# Altium schematic symbol library MCU_NXP_Kinetis.SchLib: 155 symbols (part 4 of 5)
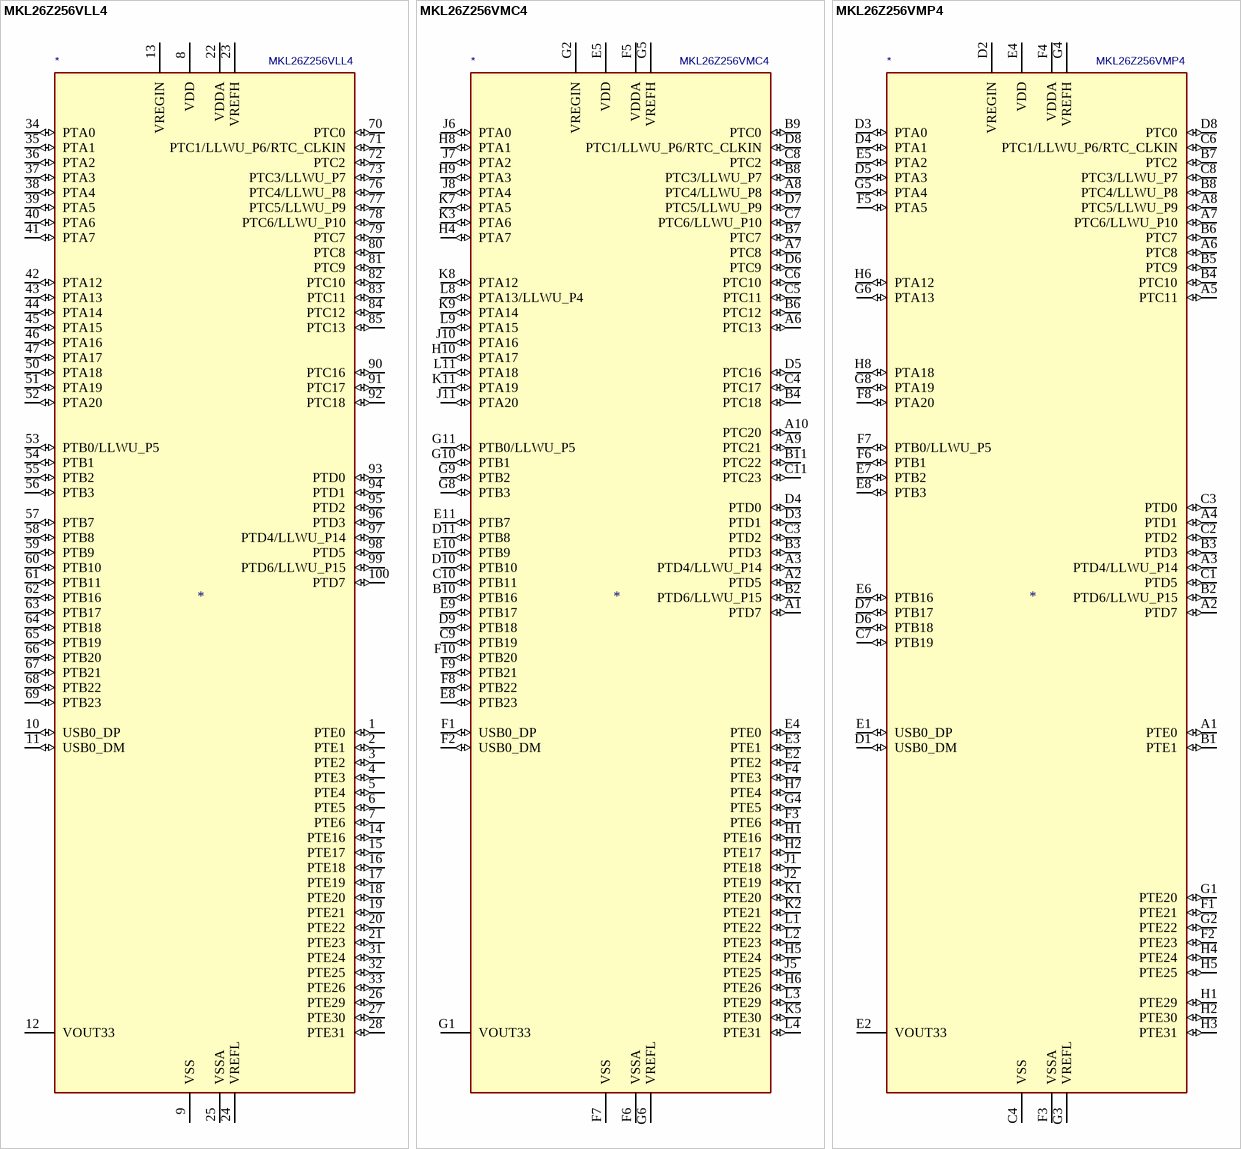
[diagram p33: symbols MKL26Z256VLL4 to MKL26Z256VMP4]

## MKL26Z256VLL4
designator *  value MKL26Z256VLL4
ki_keywords: Kinetis KL26 ARM Cortex M0+; ki_description: Kinetis KL26 series, 48-MHz/32-bit ARM Cortex-M0+, 256 kB flash, 32 kB SRAM, USB FS Device/OTG, LQFP-100; ki_fp_filters: LQFP*14x14mm*P0.5mm*; Footprint: Package_QFP:LQFP-100_14x14mm_P0.5mm; Supplier: http://www.nxp.com/docs/en/data-sheet/KL26P121M48SF4.pdf
footprint LQFP-100_14x14mm_P0.5mm
pins: 1 PTE0 (io), 2 PTE1 (io), 3 PTE2 (io), 4 PTE3 (io), 5 PTE4 (io), 6 PTE5 (io), 7 PTE6 (io), 8 VDD (power), 9 VSS (power), 10 USB0_DP (io), 11 USB0_DM (io), 12 VOUT33 (power), 13 VREGIN (power), 14 PTE16 (io), 15 PTE17 (io), 16 PTE18 (io), 17 PTE19 (io), 18 PTE20 (io), 19 PTE21 (io), 20 PTE22 (io), 21 PTE23 (io), 22 VDDA (power), 23 VREFH (power), 24 VREFL (power), 25 VSSA (power), 26 PTE29 (io), 27 PTE30 (io), 28 PTE31 (io), 29 VSS hidden, 30 VDD hidden, 31 PTE24 (io), 32 PTE25 (io), 33 PTE26 (io), 34 PTA0 (io), 35 PTA1 (io), 36 PTA2 (io), 37 PTA3 (io), 38 PTA4 (io), 39 PTA5 (io), 40 PTA6 (io), 41 PTA7 (io), 42 PTA12 (io), 43 PTA13 (io), 44 PTA14 (io), 45 PTA15 (io), 46 PTA16 (io), 47 PTA17 (io), 48 VDD hidden, 49 VSS hidden, 50 PTA18 (io), 51 PTA19 (io), 52 PTA20 (io), 53 PTB0/LLWU_P5 (io), 54 PTB1 (io), 55 PTB2 (io), 56 PTB3 (io), 57 PTB7 (io), 58 PTB8 (io), 59 PTB9 (io), 60 PTB10 (io), 61 PTB11 (io), 62 PTB16 (io), 63 PTB17 (io), 64 PTB18 (io), 65 PTB19 (io), 66 PTB20 (io), 67 PTB21 (io), 68 PTB22 (io), 69 PTB23 (io), 70 PTC0 (io), 71 PTC1/LLWU_P6/RTC_CLKIN (io), 72 PTC2 (io), 73 PTC3/LLWU_P7 (io), 74 VSS hidden, 75 VDD hidden, 76 PTC4/LLWU_P8 (io), 77 PTC5/LLWU_P9 (io), 78 PTC6/LLWU_P10 (io), 79 PTC7 (io), 80 PTC8 (io), 81 PTC9 (io), 82 PTC10 (io), 83 PTC11 (io), 84 PTC12 (io), 85 PTC13 (io), 86 NC (in) hidden, 87 NC (in) hidden, 88 NC (in) hidden, 89 NC (in) hidden, 90 PTC16 (io), 91 PTC17 (io), 92 PTC18 (io), 93 PTD0 (io), 94 PTD1 (io), 95 PTD2 (io), 96 PTD3 (io), 97 PTD4/LLWU_P14 (io), 98 PTD5 (io), 99 PTD6/LLWU_P15 (io), 100 PTD7 (io)

## MKL26Z256VMC4
designator *  value MKL26Z256VMC4
ki_keywords: Kinetis KL26 ARM Cortex M0+; ki_description: Kinetis KL26 series, 48-MHz/32-bit ARM Cortex-M0+, 256 kB flash, 32 kB SRAM, USB FS Device/OTG, XFBGA-121; ki_fp_filters: XFBGA*8x8mm*P0.65mm*; Footprint: Package_BGA:XFBGA-121_8x8mm_Layout11x11_P0.65mm; Supplier: http://www.nxp.com/docs/en/data-sheet/KL26P121M48SF4.pdf
footprint XFBGA-121_8x8mm_Layout11x11_P0.65mm
pins: A1 PTD7 (io), A2 PTD5 (io), A3 PTD4/LLWU_P14 (io), A4 NC (in) hidden, A5 NC (in) hidden, A6 PTC13 (io), A7 PTC8 (io), A8 PTC4/LLWU_P8 (io), A9 PTC21 (io), A10 PTC20 (io), A11 NC (in) hidden, B1 NC (in) hidden, B2 PTD6/LLWU_P15 (io), B3 PTD3 (io), B4 PTC18 (io), B5 NC (in) hidden, B6 PTC12 (io), B7 PTC7 (io), B8 PTC3/LLWU_P7 (io), B9 PTC0 (io), B10 PTB16 (io), B11 PTC22 (io), C1 NC (in) hidden, C2 NC (in) hidden, C3 PTD2 (io), C4 PTC17 (io), C5 PTC11 (io), C6 PTC10 (io), C7 PTC6/LLWU_P10 (io), C8 PTC2 (io), C9 PTB19 (io), C10 PTB11 (io), C11 PTC23 (io), D1 NC (in) hidden, D2 NC (in) hidden, D3 PTD1 (io), D4 PTD0 (io), D5 PTC16 (io), D6 PTC9 (io), D7 PTC5/LLWU_P9 (io), D8 PTC1/LLWU_P6/RTC_CLKIN (io), D9 PTB18 (io), D10 PTB10 (io), D11 PTB8 (io), E1 NC (in) hidden, E2 PTE2 (io), E3 PTE1 (io), E4 PTE0 (io), E5 VDD (power), E6 VDD hidden, E7 VDD hidden, E8 PTB23 (io), E9 PTB17 (io), E10 PTB9 (io), E11 PTB7 (io), F1 USB0_DP (io), F2 USB0_DM (io), F3 PTE6 (io), F4 PTE3 (io), F5 VDDA (power), F6 VSSA (power), F7 VSS (power), F8 PTB22 (io), F9 PTB21 (io), F10 PTB20 (io), F11 NC (in) hidden, G1 VOUT33 (power), G2 VREGIN (power), G3 VSS hidden, G4 PTE5 (io), G5 VREFH (power), G6 VREFL (power), G7 VSS hidden, G8 PTB3 (io), G9 PTB2 (io), G10 PTB1 (io), G11 PTB0/LLWU_P5 (io), H1 PTE16 (io), H2 PTE17 (io), H3 NC (in) hidden, H4 PTA7 (io), H5 PTE24 (io), H6 PTE26 (io), H7 PTE4 (io), H8 PTA1 (io), H9 PTA3 (io), H10 PTA17 (io), H11 NC (in) hidden, J1 PTE18 (io), J2 PTE19 (io), J3 NC (in) hidden, J4 NC (in) hidden, J5 PTE25 (io), J6 PTA0 (io), J7 PTA2 (io), J8 PTA4 (io), J9 NC (in) hidden, J10 PTA16 (io), J11 PTA20 (io), K1 PTE20 (io), K2 PTE21 (io), K3 PTA6 (io), K4 NC (in) hidden, K5 PTE30 (io), K6 VDD hidden, K7 PTA5 (io), K8 PTA12 (io), K9 PTA14 (io), K10 VSS hidden, K11 PTA19 (io), L1 PTE22 (io), L2 PTE23 (io), L3 PTE29 (io), L4 PTE31 (io), L5 VSS hidden, L6 VSS hidden, L7 NC (in) hidden, L8 PTA13/LLWU_P4 (io), L9 PTA15 (io), L10 VDD hidden, L11 PTA18 (io)

## MKL26Z256VMP4
designator *  value MKL26Z256VMP4
ki_keywords: Kinetis KL26 ARM Cortex M0+; ki_description: Kinetis KL26 series, 48-MHz/32-bit ARM Cortex-M0+, 256 kB flash, 32 kB SRAM, USB FS Device/OTG, XFBGA-64; ki_fp_filters: XFBGA*5.0x5.0mm*P0.5mm*; Footprint: Package_BGA:XFBGA-64_5.0x5.0mm_Layout8x8_P0.5mm; Supplier: http://www.nxp.com/docs/en/data-sheet/KL26P121M48SF4.pdf
footprint XFBGA-64_5.0x5.0mm_Layout8x8_P0.5mm
pins: A1 PTE0 (io), A2 PTD7 (io), A3 PTD4/LLWU_P14 (io), A4 PTD1 (io), A5 PTC11 (io), A6 PTC8 (io), A7 PTC6/LLWU_P10 (io), A8 PTC5/LLWU_P9 (io), B1 PTE1 (io), B2 PTD6/LLWU_P15 (io), B3 PTD3 (io), B4 PTC10 (io), B5 PTC9 (io), B6 PTC7 (io), B7 PTC2 (io), B8 PTC4/LLWU_P8 (io), C1 PTD5 (io), C2 PTD2 (io), C3 PTD0 (io), C4 VSS (power), C5 NC (in) hidden, C6 PTC1/LLWU_P6/RTC_CLKIN (io), C7 PTB19 (io), C8 PTC3/LLWU_P7 (io), D1 USB0_DM (io), D2 VREGIN (power), D3 PTA0 (io), D4 PTA1 (io), D5 PTA3 (io), D6 PTB18 (io), D7 PTB17 (io), D8 PTC0 (io), E1 USB0_DP (io), E2 VOUT33 (power), E3 VSS hidden, E4 VDD (power), E5 PTA2 (io), E6 PTB16 (io), E7 PTB2 (io), E8 PTB3 (io), F1 PTE21 (io), F2 PTE23 (io), F3 VSSA (power), F4 VDDA (power), F5 PTA5 (io), F6 PTB1 (io), F7 PTB0/LLWU_P5 (io), F8 PTA20 (io), G1 PTE20 (io), G2 PTE22 (io), G3 VREFL (power), G4 VREFH (power), G5 PTA4 (io), G6 PTA13 (io), G7 VDD hidden, G8 PTA19 (io), H1 PTE29 (io), H2 PTE30 (io), H3 PTE31 (io), H4 PTE24 (io), H5 PTE25 (io), H6 PTA12 (io), H7 VSS hidden, H8 PTA18 (io)

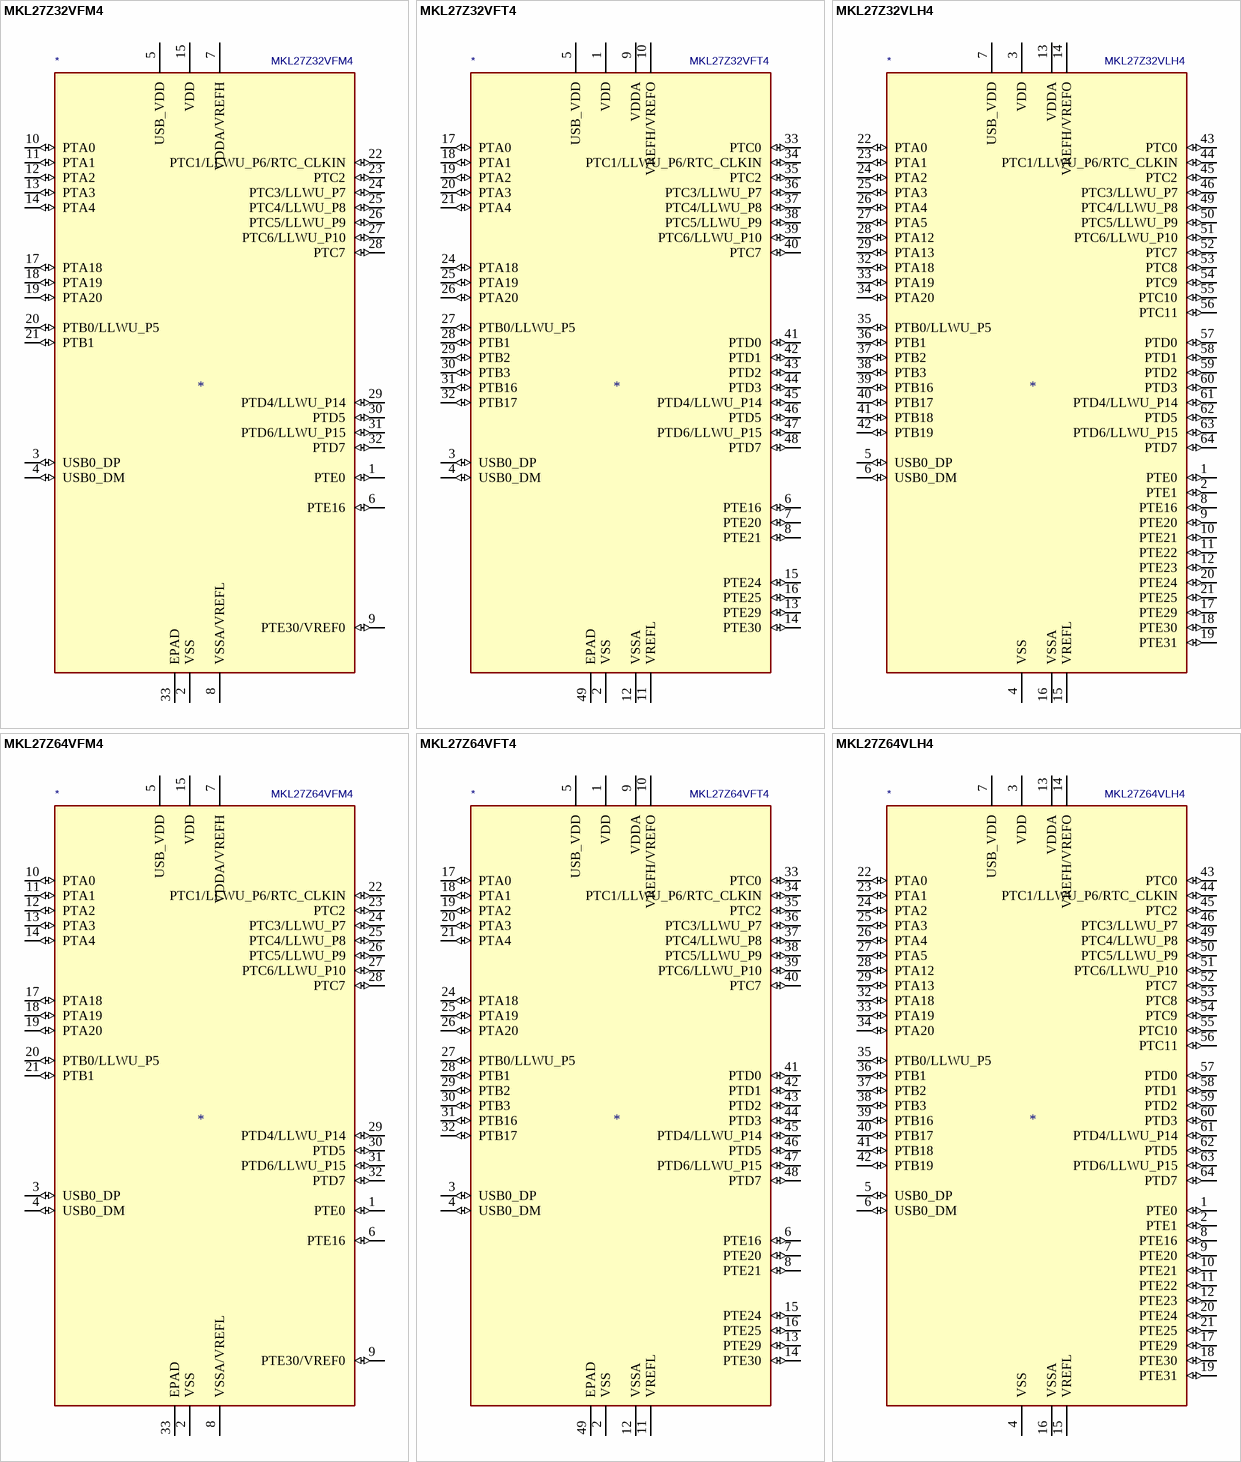
[diagram p24: symbols MKL27Z32VFM4 to MKL27Z64VLH4]

## MKL27Z32VFM4
designator *  value MKL27Z32VFM4
ki_keywords: Kinetis KL27 ARM Cortex M0+; ki_description: Kinetis KL27 series, 48-MHz/32-bit ARM Cortex-M0+, 32 kB flash, 8 kB SRAM, USB FS Device (xtal-less)/OTG, QFN-32; ki_fp_filters: QFN*5x5mm*P0.5mm*; Footprint: Package_DFN_QFN:QFN-32-1EP_5x5mm_P0.5mm_EP3.45x3.45mm; Supplier: http://www.nxp.com/docs/en/data-sheet/KL27P64M48SF2.pdf
footprint QFN-32-1EP_5x5mm_P0.5mm_EP3.45x3.45mm
pins: 1 PTE0 (io), 2 VSS (power), 3 USB0_DP (io), 4 USB0_DM (io), 5 USB_VDD (power), 6 PTE16 (io), 7 VDDA/VREFH (power), 8 VSSA/VREFL (power), 9 PTE30/VREF0 (io), 10 PTA0 (io), 11 PTA1 (io), 12 PTA2 (io), 13 PTA3 (io), 14 PTA4 (io), 15 VDD (power), 16 VSS hidden, 17 PTA18 (io), 18 PTA19 (io), 19 PTA20 (io), 20 PTB0/LLWU_P5 (io), 21 PTB1 (io), 22 PTC1/LLWU_P6/RTC_CLKIN (io), 23 PTC2 (io), 24 PTC3/LLWU_P7 (io), 25 PTC4/LLWU_P8 (io), 26 PTC5/LLWU_P9 (io), 27 PTC6/LLWU_P10 (io), 28 PTC7 (io), 29 PTD4/LLWU_P14 (io), 30 PTD5 (io), 31 PTD6/LLWU_P15 (io), 32 PTD7 (io), 33 EPAD (power)

## MKL27Z32VFT4
designator *  value MKL27Z32VFT4
ki_keywords: Kinetis KL27 ARM Cortex M0+; ki_description: Kinetis KL27 series, 48-MHz/32-bit ARM Cortex-M0+, 32 kB flash, 8 kB SRAM, USB FS Device (xtal-less)/OTG, QFN-48; ki_fp_filters: QFN*7x7mm*P0.5mm*; Footprint: Package_DFN_QFN:QFN-48-1EP_7x7mm_P0.5mm_EP5.15x5.15mm; Supplier: http://www.nxp.com/docs/en/data-sheet/KL27P64M48SF2.pdf
footprint QFN-48-1EP_7x7mm_P0.5mm_EP5.15x5.15mm
pins: 1 VDD (power), 2 VSS (power), 3 USB0_DP (io), 4 USB0_DM (io), 5 USB_VDD (power), 6 PTE16 (io), 7 PTE20 (io), 8 PTE21 (io), 9 VDDA (power), 10 VREFH/VREFO (power), 11 VREFL (power), 12 VSSA (power), 13 PTE29 (io), 14 PTE30 (io), 15 PTE24 (io), 16 PTE25 (io), 17 PTA0 (io), 18 PTA1 (io), 19 PTA2 (io), 20 PTA3 (io), 21 PTA4 (io), 22 VDD hidden, 23 VSS hidden, 24 PTA18 (io), 25 PTA19 (io), 26 PTA20 (io), 27 PTB0/LLWU_P5 (io), 28 PTB1 (io), 29 PTB2 (io), 30 PTB3 (io), 31 PTB16 (io), 32 PTB17 (io), 33 PTC0 (io), 34 PTC1/LLWU_P6/RTC_CLKIN (io), 35 PTC2 (io), 36 PTC3/LLWU_P7 (io), 37 PTC4/LLWU_P8 (io), 38 PTC5/LLWU_P9 (io), 39 PTC6/LLWU_P10 (io), 40 PTC7 (io), 41 PTD0 (io), 42 PTD1 (io), 43 PTD2 (io), 44 PTD3 (io), 45 PTD4/LLWU_P14 (io), 46 PTD5 (io), 47 PTD6/LLWU_P15 (io), 48 PTD7 (io), 49 EPAD (power)

## MKL27Z32VLH4
designator *  value MKL27Z32VLH4
ki_keywords: Kinetis KL27 ARM Cortex M0+; ki_description: Kinetis KL27 series, 48-MHz/32-bit ARM Cortex-M0+, 32 kB flash, 8 kB SRAM, USB FS Device (xtal-less)/OTG, LQFP-64; ki_fp_filters: LQFP*10x10mm*P0.5mm*; Footprint: Package_QFP:LQFP-64_10x10mm_P0.5mm; Supplier: http://www.nxp.com/docs/en/data-sheet/KL27P64M48SF2.pdf
footprint LQFP-64_10x10mm_P0.5mm
pins: 1 PTE0 (io), 2 PTE1 (io), 3 VDD (power), 4 VSS (power), 5 USB0_DP (io), 6 USB0_DM (io), 7 USB_VDD (power), 8 PTE16 (io), 9 PTE20 (io), 10 PTE21 (io), 11 PTE22 (io), 12 PTE23 (io), 13 VDDA (power), 14 VREFH/VREFO (power), 15 VREFL (power), 16 VSSA (power), 17 PTE29 (io), 18 PTE30 (io), 19 PTE31 (io), 20 PTE24 (io), 21 PTE25 (io), 22 PTA0 (io), 23 PTA1 (io), 24 PTA2 (io), 25 PTA3 (io), 26 PTA4 (io), 27 PTA5 (io), 28 PTA12 (io), 29 PTA13 (io), 30 VDD hidden, 31 VSS hidden, 32 PTA18 (io), 33 PTA19 (io), 34 PTA20 (io), 35 PTB0/LLWU_P5 (io), 36 PTB1 (io), 37 PTB2 (io), 38 PTB3 (io), 39 PTB16 (io), 40 PTB17 (io), 41 PTB18 (io), 42 PTB19 (io), 43 PTC0 (io), 44 PTC1/LLWU_P6/RTC_CLKIN (io), 45 PTC2 (io), 46 PTC3/LLWU_P7 (io), 47 VSS hidden, 48 VDD hidden, 49 PTC4/LLWU_P8 (io), 50 PTC5/LLWU_P9 (io), 51 PTC6/LLWU_P10 (io), 52 PTC7 (io), 53 PTC8 (io), 54 PTC9 (io), 55 PTC10 (io), 56 PTC11 (io), 57 PTD0 (io), 58 PTD1 (io), 59 PTD2 (io), 60 PTD3 (io), 61 PTD4/LLWU_P14 (io), 62 PTD5 (io), 63 PTD6/LLWU_P15 (io), 64 PTD7 (io)

## MKL27Z64VFM4
designator *  value MKL27Z64VFM4
ki_keywords: Kinetis KL27 ARM Cortex M0+; ki_description: Kinetis KL27 series, 48-MHz/32-bit ARM Cortex-M0+, 64 kB flash, 16 kB SRAM, USB FS Device (xtal-less)/OTG, QFN-32; ki_fp_filters: QFN*5x5mm*P0.5mm*; Footprint: Package_DFN_QFN:QFN-32-1EP_5x5mm_P0.5mm_EP3.45x3.45mm; Supplier: http://www.nxp.com/docs/en/data-sheet/KL27P64M48SF2.pdf
footprint QFN-32-1EP_5x5mm_P0.5mm_EP3.45x3.45mm
pins: 1 PTE0 (io), 2 VSS (power), 3 USB0_DP (io), 4 USB0_DM (io), 5 USB_VDD (power), 6 PTE16 (io), 7 VDDA/VREFH (power), 8 VSSA/VREFL (power), 9 PTE30/VREF0 (io), 10 PTA0 (io), 11 PTA1 (io), 12 PTA2 (io), 13 PTA3 (io), 14 PTA4 (io), 15 VDD (power), 16 VSS hidden, 17 PTA18 (io), 18 PTA19 (io), 19 PTA20 (io), 20 PTB0/LLWU_P5 (io), 21 PTB1 (io), 22 PTC1/LLWU_P6/RTC_CLKIN (io), 23 PTC2 (io), 24 PTC3/LLWU_P7 (io), 25 PTC4/LLWU_P8 (io), 26 PTC5/LLWU_P9 (io), 27 PTC6/LLWU_P10 (io), 28 PTC7 (io), 29 PTD4/LLWU_P14 (io), 30 PTD5 (io), 31 PTD6/LLWU_P15 (io), 32 PTD7 (io), 33 EPAD (power)

## MKL27Z64VFT4
designator *  value MKL27Z64VFT4
ki_keywords: Kinetis KL27 ARM Cortex M0+; ki_description: Kinetis KL27 series, 48-MHz/32-bit ARM Cortex-M0+, 64 kB flash, 16 kB SRAM, USB FS Device (xtal-less)/OTG, QFN-48; ki_fp_filters: QFN*7x7mm*P0.5mm*; Footprint: Package_DFN_QFN:QFN-48-1EP_7x7mm_P0.5mm_EP5.15x5.15mm; Supplier: http://www.nxp.com/docs/en/data-sheet/KL27P64M48SF2.pdf
footprint QFN-48-1EP_7x7mm_P0.5mm_EP5.15x5.15mm
pins: 1 VDD (power), 2 VSS (power), 3 USB0_DP (io), 4 USB0_DM (io), 5 USB_VDD (power), 6 PTE16 (io), 7 PTE20 (io), 8 PTE21 (io), 9 VDDA (power), 10 VREFH/VREFO (power), 11 VREFL (power), 12 VSSA (power), 13 PTE29 (io), 14 PTE30 (io), 15 PTE24 (io), 16 PTE25 (io), 17 PTA0 (io), 18 PTA1 (io), 19 PTA2 (io), 20 PTA3 (io), 21 PTA4 (io), 22 VDD hidden, 23 VSS hidden, 24 PTA18 (io), 25 PTA19 (io), 26 PTA20 (io), 27 PTB0/LLWU_P5 (io), 28 PTB1 (io), 29 PTB2 (io), 30 PTB3 (io), 31 PTB16 (io), 32 PTB17 (io), 33 PTC0 (io), 34 PTC1/LLWU_P6/RTC_CLKIN (io), 35 PTC2 (io), 36 PTC3/LLWU_P7 (io), 37 PTC4/LLWU_P8 (io), 38 PTC5/LLWU_P9 (io), 39 PTC6/LLWU_P10 (io), 40 PTC7 (io), 41 PTD0 (io), 42 PTD1 (io), 43 PTD2 (io), 44 PTD3 (io), 45 PTD4/LLWU_P14 (io), 46 PTD5 (io), 47 PTD6/LLWU_P15 (io), 48 PTD7 (io), 49 EPAD (power)

## MKL27Z64VLH4
designator *  value MKL27Z64VLH4
ki_keywords: Kinetis KL27 ARM Cortex M0+; ki_description: Kinetis KL27 series, 48-MHz/32-bit ARM Cortex-M0+, 64 kB flash, 16 kB SRAM, USB FS Device (xtal-less)/OTG, LQFP-64; ki_fp_filters: LQFP*10x10mm*P0.5mm*; Footprint: Package_QFP:LQFP-64_10x10mm_P0.5mm; Supplier: http://www.nxp.com/docs/en/data-sheet/KL27P64M48SF2.pdf
footprint LQFP-64_10x10mm_P0.5mm
pins: 1 PTE0 (io), 2 PTE1 (io), 3 VDD (power), 4 VSS (power), 5 USB0_DP (io), 6 USB0_DM (io), 7 USB_VDD (power), 8 PTE16 (io), 9 PTE20 (io), 10 PTE21 (io), 11 PTE22 (io), 12 PTE23 (io), 13 VDDA (power), 14 VREFH/VREFO (power), 15 VREFL (power), 16 VSSA (power), 17 PTE29 (io), 18 PTE30 (io), 19 PTE31 (io), 20 PTE24 (io), 21 PTE25 (io), 22 PTA0 (io), 23 PTA1 (io), 24 PTA2 (io), 25 PTA3 (io), 26 PTA4 (io), 27 PTA5 (io), 28 PTA12 (io), 29 PTA13 (io), 30 VDD hidden, 31 VSS hidden, 32 PTA18 (io), 33 PTA19 (io), 34 PTA20 (io), 35 PTB0/LLWU_P5 (io), 36 PTB1 (io), 37 PTB2 (io), 38 PTB3 (io), 39 PTB16 (io), 40 PTB17 (io), 41 PTB18 (io), 42 PTB19 (io), 43 PTC0 (io), 44 PTC1/LLWU_P6/RTC_CLKIN (io), 45 PTC2 (io), 46 PTC3/LLWU_P7 (io), 47 VSS hidden, 48 VDD hidden, 49 PTC4/LLWU_P8 (io), 50 PTC5/LLWU_P9 (io), 51 PTC6/LLWU_P10 (io), 52 PTC7 (io), 53 PTC8 (io), 54 PTC9 (io), 55 PTC10 (io), 56 PTC11 (io), 57 PTD0 (io), 58 PTD1 (io), 59 PTD2 (io), 60 PTD3 (io), 61 PTD4/LLWU_P14 (io), 62 PTD5 (io), 63 PTD6/LLWU_P15 (io), 64 PTD7 (io)

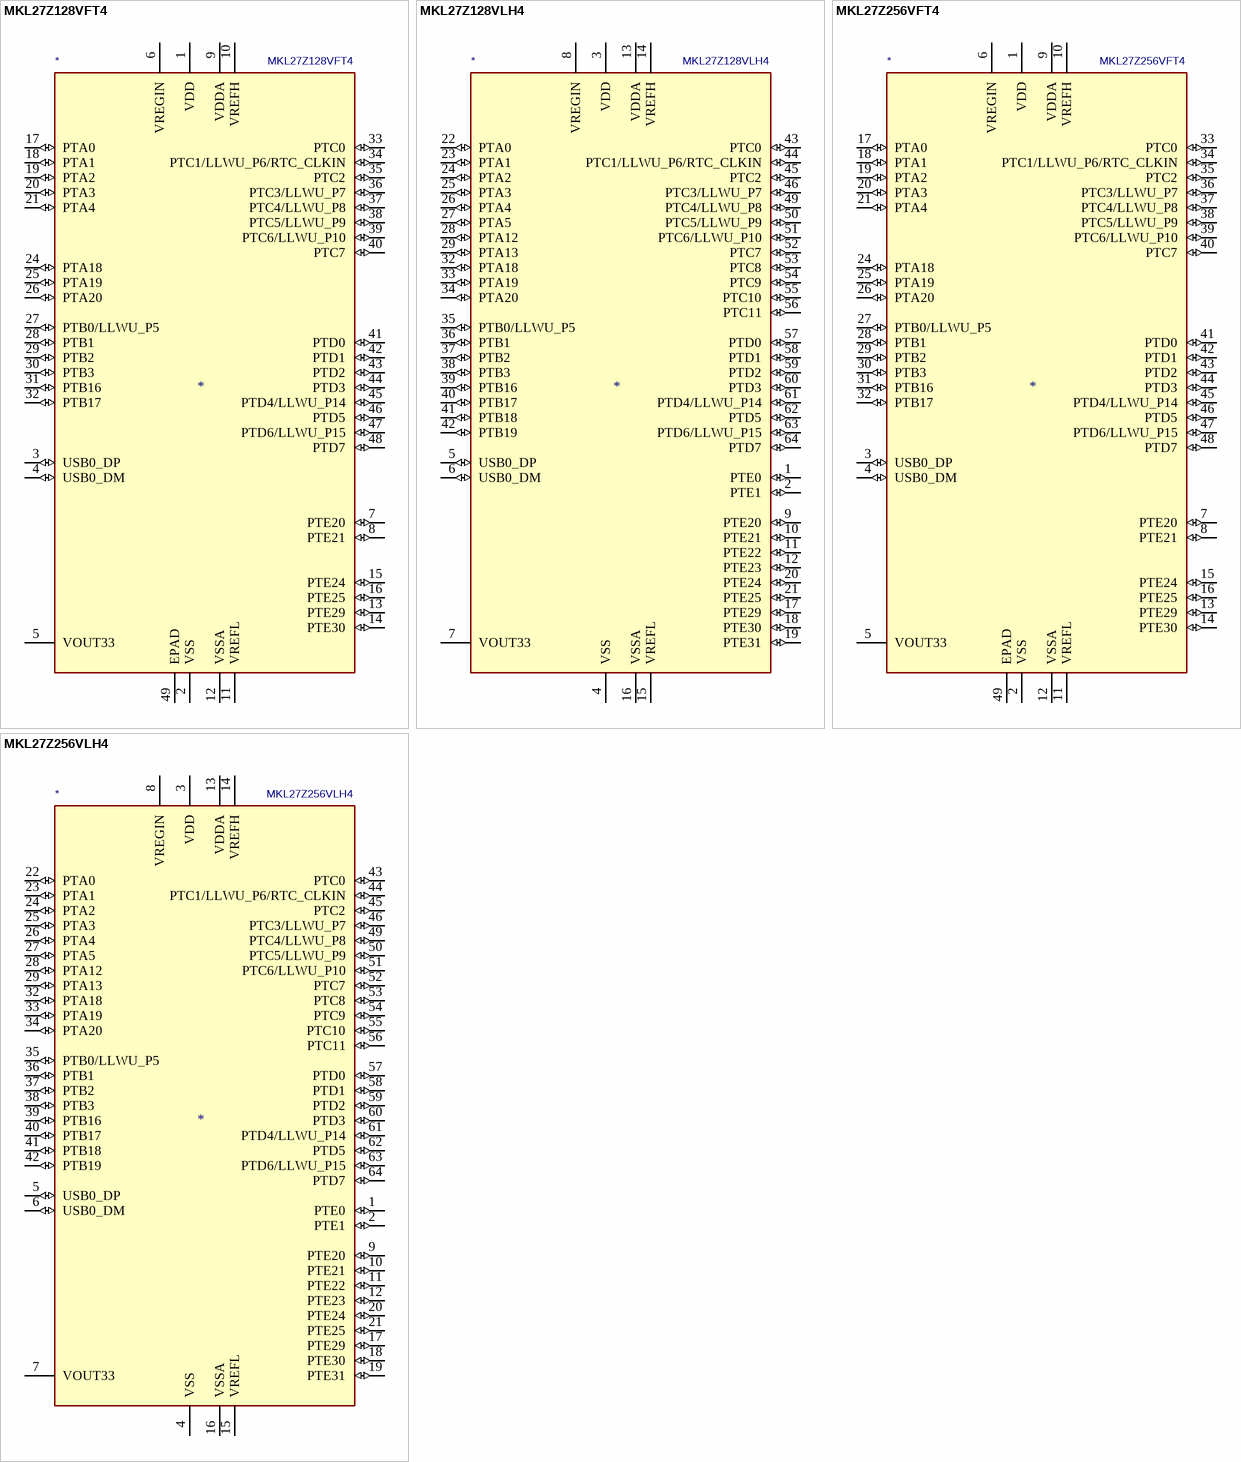
[diagram p25: symbols MKL27Z128VFT4 to MKL27Z256VLH4]

## MKL27Z128VFT4
designator *  value MKL27Z128VFT4
ki_keywords: Kinetis KL27 ARM Cortex M0+; ki_description: Kinetis KL27 series, 48-MHz/32-bit ARM Cortex-M0+, 128 kB flash, 32 kB SRAM, USB FS Device (xtal-less)/OTG, QFN-48; ki_fp_filters: QFN*7x7mm*P0.5mm*; Footprint: Package_DFN_QFN:QFN-48-1EP_7x7mm_P0.5mm_EP5.15x5.15mm; Supplier: http://www.nxp.com/docs/en/data-sheet/KL27P64M48SF6.pdf
footprint QFN-48-1EP_7x7mm_P0.5mm_EP5.15x5.15mm
pins: 1 VDD (power), 2 VSS (power), 3 USB0_DP (io), 4 USB0_DM (io), 5 VOUT33 (power), 6 VREGIN (power), 7 PTE20 (io), 8 PTE21 (io), 9 VDDA (power), 10 VREFH (power), 11 VREFL (power), 12 VSSA (power), 13 PTE29 (io), 14 PTE30 (io), 15 PTE24 (io), 16 PTE25 (io), 17 PTA0 (io), 18 PTA1 (io), 19 PTA2 (io), 20 PTA3 (io), 21 PTA4 (io), 22 VDD hidden, 23 VSS hidden, 24 PTA18 (io), 25 PTA19 (io), 26 PTA20 (io), 27 PTB0/LLWU_P5 (io), 28 PTB1 (io), 29 PTB2 (io), 30 PTB3 (io), 31 PTB16 (io), 32 PTB17 (io), 33 PTC0 (io), 34 PTC1/LLWU_P6/RTC_CLKIN (io), 35 PTC2 (io), 36 PTC3/LLWU_P7 (io), 37 PTC4/LLWU_P8 (io), 38 PTC5/LLWU_P9 (io), 39 PTC6/LLWU_P10 (io), 40 PTC7 (io), 41 PTD0 (io), 42 PTD1 (io), 43 PTD2 (io), 44 PTD3 (io), 45 PTD4/LLWU_P14 (io), 46 PTD5 (io), 47 PTD6/LLWU_P15 (io), 48 PTD7 (io), 49 EPAD (power)

## MKL27Z128VLH4
designator *  value MKL27Z128VLH4
ki_keywords: Kinetis KL27 ARM Cortex M0+; ki_description: Kinetis KL27 series, 48-MHz/32-bit ARM Cortex-M0+, 128 kB flash, 32 kB SRAM, USB FS Device (xtal-less)/OTG, LQFP-64; ki_fp_filters: LQFP*10x10mm*P0.5mm*; Footprint: Package_QFP:LQFP-64_10x10mm_P0.5mm; Supplier: http://www.nxp.com/docs/en/data-sheet/KL27P64M48SF6.pdf
footprint LQFP-64_10x10mm_P0.5mm
pins: 1 PTE0 (io), 2 PTE1 (io), 3 VDD (power), 4 VSS (power), 5 USB0_DP (io), 6 USB0_DM (io), 7 VOUT33 (power), 8 VREGIN (power), 9 PTE20 (io), 10 PTE21 (io), 11 PTE22 (io), 12 PTE23 (io), 13 VDDA (power), 14 VREFH (power), 15 VREFL (power), 16 VSSA (power), 17 PTE29 (io), 18 PTE30 (io), 19 PTE31 (io), 20 PTE24 (io), 21 PTE25 (io), 22 PTA0 (io), 23 PTA1 (io), 24 PTA2 (io), 25 PTA3 (io), 26 PTA4 (io), 27 PTA5 (io), 28 PTA12 (io), 29 PTA13 (io), 30 VDD hidden, 31 VSS hidden, 32 PTA18 (io), 33 PTA19 (io), 34 PTA20 (io), 35 PTB0/LLWU_P5 (io), 36 PTB1 (io), 37 PTB2 (io), 38 PTB3 (io), 39 PTB16 (io), 40 PTB17 (io), 41 PTB18 (io), 42 PTB19 (io), 43 PTC0 (io), 44 PTC1/LLWU_P6/RTC_CLKIN (io), 45 PTC2 (io), 46 PTC3/LLWU_P7 (io), 47 VSS hidden, 48 VDD hidden, 49 PTC4/LLWU_P8 (io), 50 PTC5/LLWU_P9 (io), 51 PTC6/LLWU_P10 (io), 52 PTC7 (io), 53 PTC8 (io), 54 PTC9 (io), 55 PTC10 (io), 56 PTC11 (io), 57 PTD0 (io), 58 PTD1 (io), 59 PTD2 (io), 60 PTD3 (io), 61 PTD4/LLWU_P14 (io), 62 PTD5 (io), 63 PTD6/LLWU_P15 (io), 64 PTD7 (io)

## MKL27Z256VFT4
designator *  value MKL27Z256VFT4
ki_keywords: Kinetis KL27 ARM Cortex M0+; ki_description: Kinetis KL27 series, 48-MHz/32-bit ARM Cortex-M0+, 256 kB flash, 32 kB SRAM, USB FS Device (xtal-less)/OTG, QFN-48; ki_fp_filters: QFN*7x7mm*P0.5mm*; Footprint: Package_DFN_QFN:QFN-48-1EP_7x7mm_P0.5mm_EP5.15x5.15mm; Supplier: http://www.nxp.com/docs/en/data-sheet/KL27P64M48SF6.pdf
footprint QFN-48-1EP_7x7mm_P0.5mm_EP5.15x5.15mm
pins: 1 VDD (power), 2 VSS (power), 3 USB0_DP (io), 4 USB0_DM (io), 5 VOUT33 (power), 6 VREGIN (power), 7 PTE20 (io), 8 PTE21 (io), 9 VDDA (power), 10 VREFH (power), 11 VREFL (power), 12 VSSA (power), 13 PTE29 (io), 14 PTE30 (io), 15 PTE24 (io), 16 PTE25 (io), 17 PTA0 (io), 18 PTA1 (io), 19 PTA2 (io), 20 PTA3 (io), 21 PTA4 (io), 22 VDD hidden, 23 VSS hidden, 24 PTA18 (io), 25 PTA19 (io), 26 PTA20 (io), 27 PTB0/LLWU_P5 (io), 28 PTB1 (io), 29 PTB2 (io), 30 PTB3 (io), 31 PTB16 (io), 32 PTB17 (io), 33 PTC0 (io), 34 PTC1/LLWU_P6/RTC_CLKIN (io), 35 PTC2 (io), 36 PTC3/LLWU_P7 (io), 37 PTC4/LLWU_P8 (io), 38 PTC5/LLWU_P9 (io), 39 PTC6/LLWU_P10 (io), 40 PTC7 (io), 41 PTD0 (io), 42 PTD1 (io), 43 PTD2 (io), 44 PTD3 (io), 45 PTD4/LLWU_P14 (io), 46 PTD5 (io), 47 PTD6/LLWU_P15 (io), 48 PTD7 (io), 49 EPAD (power)

## MKL27Z256VLH4
designator *  value MKL27Z256VLH4
ki_keywords: Kinetis KL27 ARM Cortex M0+; ki_description: Kinetis KL27 series, 48-MHz/32-bit ARM Cortex-M0+, 256 kB flash, 32 kB SRAM, USB FS Device (xtal-less)/OTG, LQFP-64; ki_fp_filters: LQFP*10x10mm*P0.5mm*; Footprint: Package_QFP:LQFP-64_10x10mm_P0.5mm; Supplier: http://www.nxp.com/docs/en/data-sheet/KL27P64M48SF6.pdf
footprint LQFP-64_10x10mm_P0.5mm
pins: 1 PTE0 (io), 2 PTE1 (io), 3 VDD (power), 4 VSS (power), 5 USB0_DP (io), 6 USB0_DM (io), 7 VOUT33 (power), 8 VREGIN (power), 9 PTE20 (io), 10 PTE21 (io), 11 PTE22 (io), 12 PTE23 (io), 13 VDDA (power), 14 VREFH (power), 15 VREFL (power), 16 VSSA (power), 17 PTE29 (io), 18 PTE30 (io), 19 PTE31 (io), 20 PTE24 (io), 21 PTE25 (io), 22 PTA0 (io), 23 PTA1 (io), 24 PTA2 (io), 25 PTA3 (io), 26 PTA4 (io), 27 PTA5 (io), 28 PTA12 (io), 29 PTA13 (io), 30 VDD hidden, 31 VSS hidden, 32 PTA18 (io), 33 PTA19 (io), 34 PTA20 (io), 35 PTB0/LLWU_P5 (io), 36 PTB1 (io), 37 PTB2 (io), 38 PTB3 (io), 39 PTB16 (io), 40 PTB17 (io), 41 PTB18 (io), 42 PTB19 (io), 43 PTC0 (io), 44 PTC1/LLWU_P6/RTC_CLKIN (io), 45 PTC2 (io), 46 PTC3/LLWU_P7 (io), 47 VSS hidden, 48 VDD hidden, 49 PTC4/LLWU_P8 (io), 50 PTC5/LLWU_P9 (io), 51 PTC6/LLWU_P10 (io), 52 PTC7 (io), 53 PTC8 (io), 54 PTC9 (io), 55 PTC10 (io), 56 PTC11 (io), 57 PTD0 (io), 58 PTD1 (io), 59 PTD2 (io), 60 PTD3 (io), 61 PTD4/LLWU_P14 (io), 62 PTD5 (io), 63 PTD6/LLWU_P15 (io), 64 PTD7 (io)

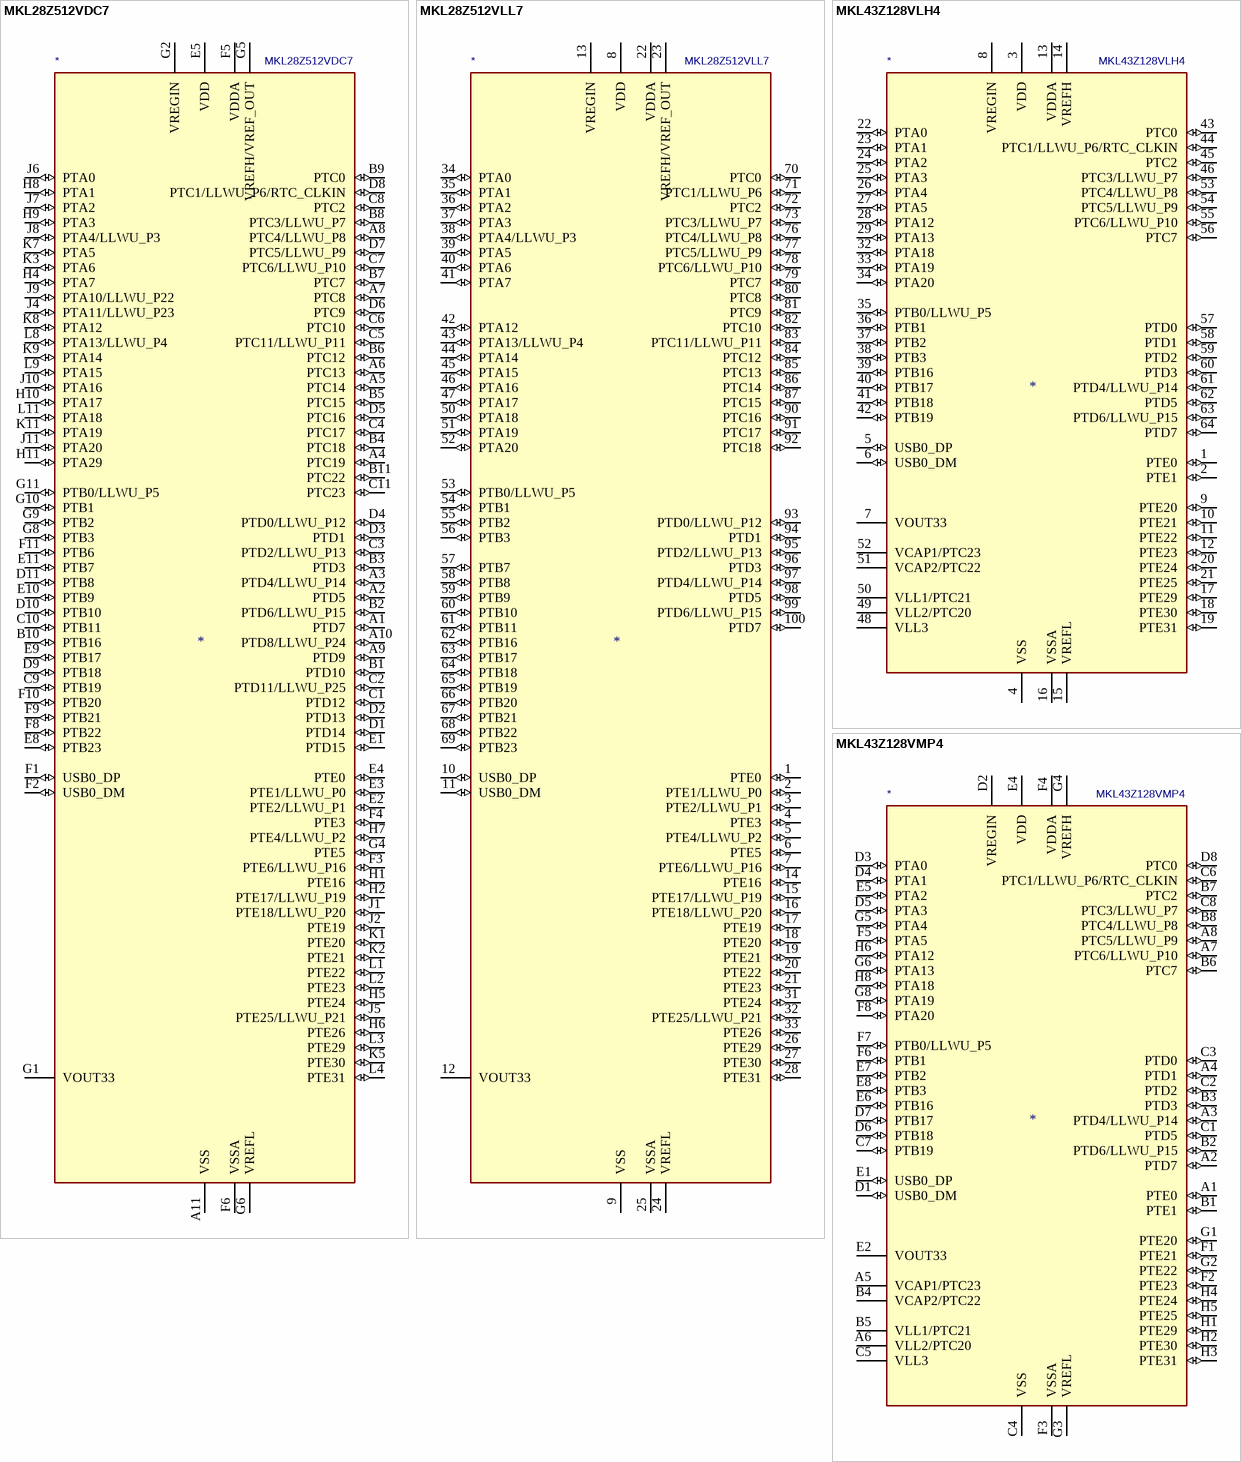
[diagram p26: symbols MKL28Z512VDC7 to MKL43Z128VMP4]

## MKL28Z512VDC7
designator *  value MKL28Z512VDC7
ki_keywords: Kinetis KL28 ARM Cortex M0+; ki_description: Kinetis KL28 series, 72...96-MHz/32-bit ARM Cortex-M0+, 512 kB flash, 128 kB SRAM, USB FS Device (xtal-less), XFBGA-121; ki_fp_filters: XFBGA*8x8mm*P0.65mm*; Footprint: Package_BGA:XFBGA-121_8x8mm_Layout11x11_P0.65mm; Supplier: http://www.nxp.com/docs/en/data-sheet/MKL28Z512Vxx7.pdf
footprint XFBGA-121_8x8mm_Layout11x11_P0.65mm
pins: A1 PTD7 (io), A2 PTD5 (io), A3 PTD4/LLWU_P14 (io), A4 PTC19 (io), A5 PTC14 (io), A6 PTC13 (io), A7 PTC8 (io), A8 PTC4/LLWU_P8 (io), A9 PTD9 (io), A10 PTD8/LLWU_P24 (io), A11 VSS (power), B1 PTD10 (io), B2 PTD6/LLWU_P15 (io), B3 PTD3 (io), B4 PTC18 (io), B5 PTC15 (io), B6 PTC12 (io), B7 PTC7 (io), B8 PTC3/LLWU_P7 (io), B9 PTC0 (io), B10 PTB16 (io), B11 PTC22 (io), C1 PTD12 (io), C2 PTD11/LLWU_P25 (io), C3 PTD2/LLWU_P13 (io), C4 PTC17 (io), C5 PTC11/LLWU_P11 (io), C6 PTC10 (io), C7 PTC6/LLWU_P10 (io), C8 PTC2 (io), C9 PTB19 (io), C10 PTB11 (io), C11 PTC23 (io), D1 PTD14 (io), D2 PTD13 (io), D3 PTD1 (io), D4 PTD0/LLWU_P12 (io), D5 PTC16 (io), D6 PTC9 (io), D7 PTC5/LLWU_P9 (io), D8 PTC1/LLWU_P6/RTC_CLKIN (io), D9 PTB18 (io), D10 PTB10 (io), D11 PTB8 (io), E1 PTD15 (io), E2 PTE2/LLWU_P1 (io), E3 PTE1/LLWU_P0 (io), E4 PTE0 (io), E5 VDD (power), E6 VDD hidden, E7 VDD hidden, E8 PTB23 (io), E9 PTB17 (io), E10 PTB9 (io), E11 PTB7 (io), F1 USB0_DP (io), F2 USB0_DM (io), F3 PTE6/LLWU_P16 (io), F4 PTE3 (io), F5 VDDA (power), F6 VSSA (power), F7 VSS hidden, F8 PTB22 (io), F9 PTB21 (io), F10 PTB20 (io), F11 PTB6 (io), G1 VOUT33 (power), G2 VREGIN (power), G3 VSS hidden, G4 PTE5 (io), G5 VREFH/VREF_OUT (power), G6 VREFL (power), G7 VSS hidden, G8 PTB3 (io), G9 PTB2 (io), G10 PTB1 (io), G11 PTB0/LLWU_P5 (io), H1 PTE16 (io), H2 PTE17/LLWU_P19 (io), H3 NC (in) hidden, H4 PTA7 (io), H5 PTE24 (io), H6 PTE26 (io), H7 PTE4/LLWU_P2 (io), H8 PTA1 (io), H9 PTA3 (io), H10 PTA17 (io), H11 PTA29 (io), J1 PTE18/LLWU_P20 (io), J2 PTE19 (io), J3 NC (in) hidden, J4 PTA11/LLWU_P23 (io), J5 PTE25/LLWU_P21 (io), J6 PTA0 (io), J7 PTA2 (io), J8 PTA4/LLWU_P3 (io), J9 PTA10/LLWU_P22 (io), J10 PTA16 (io), J11 PTA20 (io), K1 PTE20 (io), K2 PTE21 (io), K3 PTA6 (io), K4 NC (in) hidden, K5 PTE30 (io), K6 VDD hidden, K7 PTA5 (io), K8 PTA12 (io), K9 PTA14 (io), K10 VSS hidden, K11 PTA19 (io), L1 PTE22 (io), L2 PTE23 (io), L3 PTE29 (io), L4 PTE31 (io), L5 VSS hidden, L6 VSS hidden, L7 NC (in) hidden, L8 PTA13/LLWU_P4 (io), L9 PTA15 (io), L10 VDD hidden, L11 PTA18 (io)

## MKL28Z512VLL7
designator *  value MKL28Z512VLL7
ki_keywords: Kinetis KL28 ARM Cortex M0+; ki_description: Kinetis KL28 series, 72...96-MHz/32-bit ARM Cortex-M0+, 512 kB flash, 128 kB SRAM, USB FS Device (xtal-less), LQFP-100; ki_fp_filters: LQFP*14x14mm*P0.5mm*; Footprint: Package_QFP:LQFP-100_14x14mm_P0.5mm; Supplier: http://www.nxp.com/docs/en/data-sheet/MKL28Z512Vxx7.pdf
footprint LQFP-100_14x14mm_P0.5mm
pins: 1 PTE0 (io), 2 PTE1/LLWU_P0 (io), 3 PTE2/LLWU_P1 (io), 4 PTE3 (io), 5 PTE4/LLWU_P2 (io), 6 PTE5 (io), 7 PTE6/LLWU_P16 (io), 8 VDD (power), 9 VSS (power), 10 USB0_DP (io), 11 USB0_DM (io), 12 VOUT33 (power), 13 VREGIN (power), 14 PTE16 (io), 15 PTE17/LLWU_P19 (io), 16 PTE18/LLWU_P20 (io), 17 PTE19 (io), 18 PTE20 (io), 19 PTE21 (io), 20 PTE22 (io), 21 PTE23 (io), 22 VDDA (power), 23 VREFH/VREF_OUT (power), 24 VREFL (power), 25 VSSA (power), 26 PTE29 (io), 27 PTE30 (io), 28 PTE31 (io), 29 VSS hidden, 30 VDD hidden, 31 PTE24 (io), 32 PTE25/LLWU_P21 (io), 33 PTE26 (io), 34 PTA0 (io), 35 PTA1 (io), 36 PTA2 (io), 37 PTA3 (io), 38 PTA4/LLWU_P3 (io), 39 PTA5 (io), 40 PTA6 (io), 41 PTA7 (io), 42 PTA12 (io), 43 PTA13/LLWU_P4 (io), 44 PTA14 (io), 45 PTA15 (io), 46 PTA16 (io), 47 PTA17 (io), 48 VDD hidden, 49 VSS hidden, 50 PTA18 (io), 51 PTA19 (io), 52 PTA20 (io), 53 PTB0/LLWU_P5 (io), 54 PTB1 (io), 55 PTB2 (io), 56 PTB3 (io), 57 PTB7 (io), 58 PTB8 (io), 59 PTB9 (io), 60 PTB10 (io), 61 PTB11 (io), 62 PTB16 (io), 63 PTB17 (io), 64 PTB18 (io), 65 PTB19 (io), 66 PTB20 (io), 67 PTB21 (io), 68 PTB22 (io), 69 PTB23 (io), 70 PTC0 (io), 71 PTC1/LLWU_P6 (io), 72 PTC2 (io), 73 PTC3/LLWU_P7 (io), 74 VSS hidden, 75 VDD hidden, 76 PTC4/LLWU_P8 (io), 77 PTC5/LLWU_P9 (io), 78 PTC6/LLWU_P10 (io), 79 PTC7 (io), 80 PTC8 (io), 81 PTC9 (io), 82 PTC10 (io), 83 PTC11/LLWU_P11 (io), 84 PTC12 (io), 85 PTC13 (io), 86 PTC14 (io), 87 PTC15 (io), 88 VSS hidden, 89 VDD hidden, 90 PTC16 (io), 91 PTC17 (io), 92 PTC18 (io), 93 PTD0/LLWU_P12 (io), 94 PTD1 (io), 95 PTD2/LLWU_P13 (io), 96 PTD3 (io), 97 PTD4/LLWU_P14 (io), 98 PTD5 (io), 99 PTD6/LLWU_P15 (io), 100 PTD7 (io)

## MKL43Z128VLH4
designator *  value MKL43Z128VLH4
ki_keywords: Kinetis KL43 ARM Cortex M0+; ki_description: Kinetis KL43 series, 48-MHz/32-bit ARM Cortex-M0+, 128 kB flash, 16 kB SRAM, USB FS Device (xtal-less), Segment LCD, FlexIO, LQFP-64; ki_fp_filters: LQFP*10x10mm*P0.5mm*; Footprint: Package_QFP:LQFP-64_10x10mm_P0.5mm; Supplier: http://www.nxp.com/docs/en/data-sheet/KL43P64M48SF6.pdf
footprint LQFP-64_10x10mm_P0.5mm
pins: 1 PTE0 (io), 2 PTE1 (io), 3 VDD (power), 4 VSS (power), 5 USB0_DP (io), 6 USB0_DM (io), 7 VOUT33 (power), 8 VREGIN (power), 9 PTE20 (io), 10 PTE21 (io), 11 PTE22 (io), 12 PTE23 (io), 13 VDDA (power), 14 VREFH (power), 15 VREFL (power), 16 VSSA (power), 17 PTE29 (io), 18 PTE30 (io), 19 PTE31 (io), 20 PTE24 (io), 21 PTE25 (io), 22 PTA0 (io), 23 PTA1 (io), 24 PTA2 (io), 25 PTA3 (io), 26 PTA4 (io), 27 PTA5 (io), 28 PTA12 (io), 29 PTA13 (io), 30 VDD hidden, 31 VSS hidden, 32 PTA18 (io), 33 PTA19 (io), 34 PTA20 (io), 35 PTB0/LLWU_P5 (io), 36 PTB1 (io), 37 PTB2 (io), 38 PTB3 (io), 39 PTB16 (io), 40 PTB17 (io), 41 PTB18 (io), 42 PTB19 (io), 43 PTC0 (io), 44 PTC1/LLWU_P6/RTC_CLKIN (io), 45 PTC2 (io), 46 PTC3/LLWU_P7 (io), 47 VSS hidden, 48 VLL3 (power), 49 VLL2/PTC20 (power), 50 VLL1/PTC21 (power), 51 VCAP2/PTC22, 52 VCAP1/PTC23, 53 PTC4/LLWU_P8 (io), 54 PTC5/LLWU_P9 (io), 55 PTC6/LLWU_P10 (io), 56 PTC7 (io), 57 PTD0 (io), 58 PTD1 (io), 59 PTD2 (io), 60 PTD3 (io), 61 PTD4/LLWU_P14 (io), 62 PTD5 (io), 63 PTD6/LLWU_P15 (io), 64 PTD7 (io)

## MKL43Z128VMP4
designator *  value MKL43Z128VMP4
ki_keywords: Kinetis KL43 ARM Cortex M0+; ki_description: Kinetis KL43 series, 48-MHz/32-bit ARM Cortex-M0+, 128 kB flash, 16 kB SRAM, USB FS Device (xtal-less), Segment LCD, FlexIO, MAPBGA-64; ki_fp_filters: XFBGA*5.0x5.0mm*P0.5mm*; Footprint: Package_BGA:XFBGA-64_5.0x5.0mm_Layout8x8_P0.5mm; Supplier: http://www.nxp.com/docs/en/data-sheet/KL43P64M48SF6.pdf
footprint XFBGA-64_5.0x5.0mm_Layout8x8_P0.5mm
pins: A1 PTE0 (io), A2 PTD7 (io), A3 PTD4/LLWU_P14 (io), A4 PTD1 (io), A5 VCAP1/PTC23, A6 VLL2/PTC20 (power), A7 PTC6/LLWU_P10 (io), A8 PTC5/LLWU_P9 (io), B1 PTE1 (io), B2 PTD6/LLWU_P15 (io), B3 PTD3 (io), B4 VCAP2/PTC22, B5 VLL1/PTC21 (power), B6 PTC7 (io), B7 PTC2 (io), B8 PTC4/LLWU_P8 (io), C1 PTD5 (io), C2 PTD2 (io), C3 PTD0 (io), C4 VSS (power), C5 VLL3 (power), C6 PTC1/LLWU_P6/RTC_CLKIN (io), C7 PTB19 (io), C8 PTC3/LLWU_P7 (io), D1 USB0_DM (io), D2 VREGIN (power), D3 PTA0 (io), D4 PTA1 (io), D5 PTA3 (io), D6 PTB18 (io), D7 PTB17 (io), D8 PTC0 (io), E1 USB0_DP (io), E2 VOUT33 (power), E3 VSS hidden, E4 VDD (power), E5 PTA2 (io), E6 PTB16 (io), E7 PTB2 (io), E8 PTB3 (io), F1 PTE21 (io), F2 PTE23 (io), F3 VSSA (power), F4 VDDA (power), F5 PTA5 (io), F6 PTB1 (io), F7 PTB0/LLWU_P5 (io), F8 PTA20 (io), G1 PTE20 (io), G2 PTE22 (io), G3 VREFL (power), G4 VREFH (power), G5 PTA4 (io), G6 PTA13 (io), G7 VDD hidden, G8 PTA19 (io), H1 PTE29 (io), H2 PTE30 (io), H3 PTE31 (io), H4 PTE24 (io), H5 PTE25 (io), H6 PTA12 (io), H7 VSS hidden, H8 PTA18 (io)

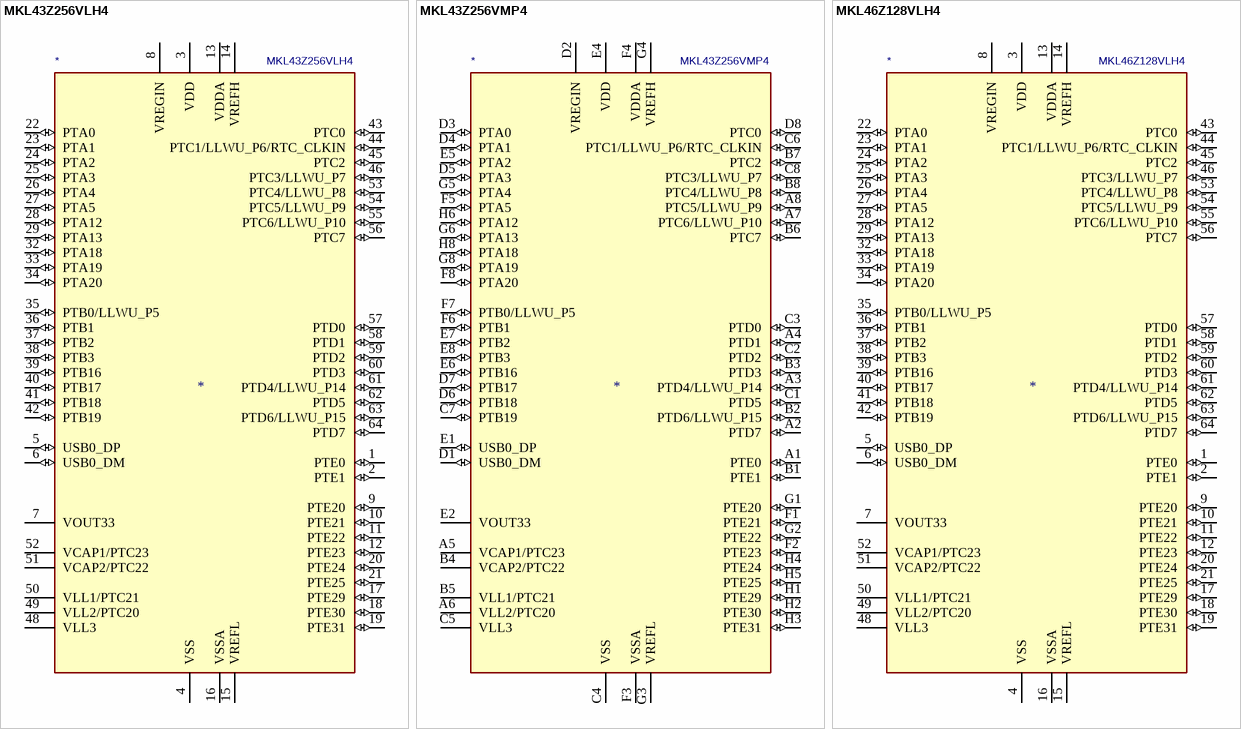
[diagram p27: symbols MKL43Z256VLH4 to MKL46Z128VLH4]

## MKL43Z256VLH4
designator *  value MKL43Z256VLH4
ki_keywords: Kinetis KL43 ARM Cortex M0+; ki_description: Kinetis KL43 series, 48-MHz/32-bit ARM Cortex-M0+, 256 kB flash, 32 kB SRAM, USB FS Device (xtal-less), Segment LCD, FlexIO, LQFP-64; ki_fp_filters: LQFP*10x10mm*P0.5mm*; Footprint: Package_QFP:LQFP-64_10x10mm_P0.5mm; Supplier: http://www.nxp.com/docs/en/data-sheet/KL43P64M48SF6.pdf
footprint LQFP-64_10x10mm_P0.5mm
pins: 1 PTE0 (io), 2 PTE1 (io), 3 VDD (power), 4 VSS (power), 5 USB0_DP (io), 6 USB0_DM (io), 7 VOUT33 (power), 8 VREGIN (power), 9 PTE20 (io), 10 PTE21 (io), 11 PTE22 (io), 12 PTE23 (io), 13 VDDA (power), 14 VREFH (power), 15 VREFL (power), 16 VSSA (power), 17 PTE29 (io), 18 PTE30 (io), 19 PTE31 (io), 20 PTE24 (io), 21 PTE25 (io), 22 PTA0 (io), 23 PTA1 (io), 24 PTA2 (io), 25 PTA3 (io), 26 PTA4 (io), 27 PTA5 (io), 28 PTA12 (io), 29 PTA13 (io), 30 VDD hidden, 31 VSS hidden, 32 PTA18 (io), 33 PTA19 (io), 34 PTA20 (io), 35 PTB0/LLWU_P5 (io), 36 PTB1 (io), 37 PTB2 (io), 38 PTB3 (io), 39 PTB16 (io), 40 PTB17 (io), 41 PTB18 (io), 42 PTB19 (io), 43 PTC0 (io), 44 PTC1/LLWU_P6/RTC_CLKIN (io), 45 PTC2 (io), 46 PTC3/LLWU_P7 (io), 47 VSS hidden, 48 VLL3 (power), 49 VLL2/PTC20 (power), 50 VLL1/PTC21 (power), 51 VCAP2/PTC22, 52 VCAP1/PTC23, 53 PTC4/LLWU_P8 (io), 54 PTC5/LLWU_P9 (io), 55 PTC6/LLWU_P10 (io), 56 PTC7 (io), 57 PTD0 (io), 58 PTD1 (io), 59 PTD2 (io), 60 PTD3 (io), 61 PTD4/LLWU_P14 (io), 62 PTD5 (io), 63 PTD6/LLWU_P15 (io), 64 PTD7 (io)

## MKL43Z256VMP4
designator *  value MKL43Z256VMP4
ki_keywords: Kinetis KL43 ARM Cortex M0+; ki_description: Kinetis KL43 series, 48-MHz/32-bit ARM Cortex-M0+, 256 kB flash, 32 kB SRAM, USB FS Device (xtal-less), Segment LCD, FlexIO, MAPBGA-64; ki_fp_filters: XFBGA*5.0x5.0mm*P0.5mm*; Footprint: Package_BGA:XFBGA-64_5.0x5.0mm_Layout8x8_P0.5mm; Supplier: http://www.nxp.com/docs/en/data-sheet/KL43P64M48SF6.pdf
footprint XFBGA-64_5.0x5.0mm_Layout8x8_P0.5mm
pins: A1 PTE0 (io), A2 PTD7 (io), A3 PTD4/LLWU_P14 (io), A4 PTD1 (io), A5 VCAP1/PTC23, A6 VLL2/PTC20 (power), A7 PTC6/LLWU_P10 (io), A8 PTC5/LLWU_P9 (io), B1 PTE1 (io), B2 PTD6/LLWU_P15 (io), B3 PTD3 (io), B4 VCAP2/PTC22, B5 VLL1/PTC21 (power), B6 PTC7 (io), B7 PTC2 (io), B8 PTC4/LLWU_P8 (io), C1 PTD5 (io), C2 PTD2 (io), C3 PTD0 (io), C4 VSS (power), C5 VLL3 (power), C6 PTC1/LLWU_P6/RTC_CLKIN (io), C7 PTB19 (io), C8 PTC3/LLWU_P7 (io), D1 USB0_DM (io), D2 VREGIN (power), D3 PTA0 (io), D4 PTA1 (io), D5 PTA3 (io), D6 PTB18 (io), D7 PTB17 (io), D8 PTC0 (io), E1 USB0_DP (io), E2 VOUT33 (power), E3 VSS hidden, E4 VDD (power), E5 PTA2 (io), E6 PTB16 (io), E7 PTB2 (io), E8 PTB3 (io), F1 PTE21 (io), F2 PTE23 (io), F3 VSSA (power), F4 VDDA (power), F5 PTA5 (io), F6 PTB1 (io), F7 PTB0/LLWU_P5 (io), F8 PTA20 (io), G1 PTE20 (io), G2 PTE22 (io), G3 VREFL (power), G4 VREFH (power), G5 PTA4 (io), G6 PTA13 (io), G7 VDD hidden, G8 PTA19 (io), H1 PTE29 (io), H2 PTE30 (io), H3 PTE31 (io), H4 PTE24 (io), H5 PTE25 (io), H6 PTA12 (io), H7 VSS hidden, H8 PTA18 (io)

## MKL46Z128VLH4
designator *  value MKL46Z128VLH4
ki_keywords: Kinetis KL46 ARM Cortex M0+; ki_description: Kinetis KL46 series, 48-MHz/32-bit ARM Cortex-M0+, 128 kB flash, 16 kB SRAM, USB FS Device/OTG, Segment LCD, TSI, LQFP-64; ki_fp_filters: LQFP*10x10mm*P0.5mm*; Footprint: Package_QFP:LQFP-64_10x10mm_P0.5mm; Supplier: http://www.nxp.com/docs/en/data-sheet/KL46P121M48SF4.pdf
footprint LQFP-64_10x10mm_P0.5mm
pins: 1 PTE0 (io), 2 PTE1 (io), 3 VDD (power), 4 VSS (power), 5 USB0_DP (io), 6 USB0_DM (io), 7 VOUT33 (power), 8 VREGIN (power), 9 PTE20 (io), 10 PTE21 (io), 11 PTE22 (io), 12 PTE23 (io), 13 VDDA (power), 14 VREFH (power), 15 VREFL (power), 16 VSSA (power), 17 PTE29 (io), 18 PTE30 (io), 19 PTE31 (io), 20 PTE24 (io), 21 PTE25 (io), 22 PTA0 (io), 23 PTA1 (io), 24 PTA2 (io), 25 PTA3 (io), 26 PTA4 (io), 27 PTA5 (io), 28 PTA12 (io), 29 PTA13 (io), 30 VDD hidden, 31 VSS hidden, 32 PTA18 (io), 33 PTA19 (io), 34 PTA20 (io), 35 PTB0/LLWU_P5 (io), 36 PTB1 (io), 37 PTB2 (io), 38 PTB3 (io), 39 PTB16 (io), 40 PTB17 (io), 41 PTB18 (io), 42 PTB19 (io), 43 PTC0 (io), 44 PTC1/LLWU_P6/RTC_CLKIN (io), 45 PTC2 (io), 46 PTC3/LLWU_P7 (io), 47 VSS hidden, 48 VLL3 (power), 49 VLL2/PTC20 (power), 50 VLL1/PTC21 (power), 51 VCAP2/PTC22, 52 VCAP1/PTC23, 53 PTC4/LLWU_P8 (io), 54 PTC5/LLWU_P9 (io), 55 PTC6/LLWU_P10 (io), 56 PTC7 (io), 57 PTD0 (io), 58 PTD1 (io), 59 PTD2 (io), 60 PTD3 (io), 61 PTD4/LLWU_P14 (io), 62 PTD5 (io), 63 PTD6/LLWU_P15 (io), 64 PTD7 (io)

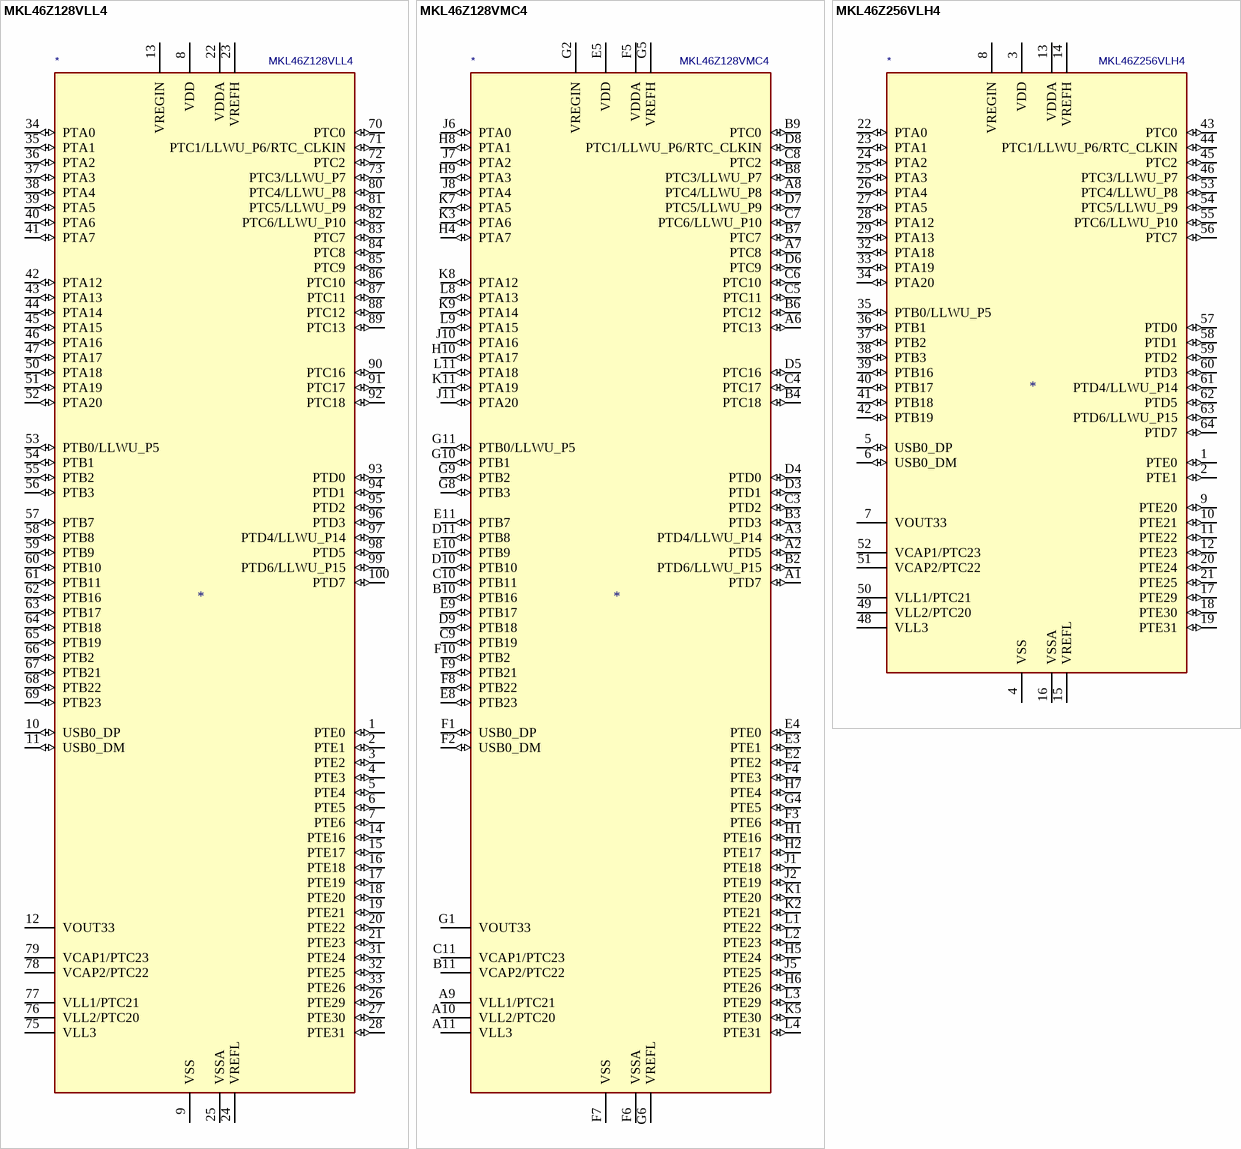
[diagram p28: symbols MKL46Z128VLL4 to MKL46Z256VLH4]

## MKL46Z128VLL4
designator *  value MKL46Z128VLL4
ki_keywords: Kinetis KL46 ARM Cortex M0+; ki_description: Kinetis KL46 series, 48-MHz/32-bit ARM Cortex-M0+, 128 kB flash, 16 kB SRAM, USB FS Device/OTG, Segment LCD, TSI, LQFP-100; ki_fp_filters: LQFP*14x14mm*P0.5mm*; Footprint: Package_QFP:LQFP-100_14x14mm_P0.5mm; Supplier: http://www.nxp.com/docs/en/data-sheet/KL46P121M48SF4.pdf
footprint LQFP-100_14x14mm_P0.5mm
pins: 1 PTE0 (io), 2 PTE1 (io), 3 PTE2 (io), 4 PTE3 (io), 5 PTE4 (io), 6 PTE5 (io), 7 PTE6 (io), 8 VDD (power), 9 VSS (power), 10 USB0_DP (io), 11 USB0_DM (io), 12 VOUT33 (power), 13 VREGIN (power), 14 PTE16 (io), 15 PTE17 (io), 16 PTE18 (io), 17 PTE19 (io), 18 PTE20 (io), 19 PTE21 (io), 20 PTE22 (io), 21 PTE23 (io), 22 VDDA (power), 23 VREFH (power), 24 VREFL (power), 25 VSSA (power), 26 PTE29 (io), 27 PTE30 (io), 28 PTE31 (io), 29 VSS hidden, 30 VDD hidden, 31 PTE24 (io), 32 PTE25 (io), 33 PTE26 (io), 34 PTA0 (io), 35 PTA1 (io), 36 PTA2 (io), 37 PTA3 (io), 38 PTA4 (io), 39 PTA5 (io), 40 PTA6 (io), 41 PTA7 (io), 42 PTA12 (io), 43 PTA13 (io), 44 PTA14 (io), 45 PTA15 (io), 46 PTA16 (io), 47 PTA17 (io), 48 VDD hidden, 49 VSS hidden, 50 PTA18 (io), 51 PTA19 (io), 52 PTA20 (io), 53 PTB0/LLWU_P5 (io), 54 PTB1 (io), 55 PTB2 (io), 56 PTB3 (io), 57 PTB7 (io), 58 PTB8 (io), 59 PTB9 (io), 60 PTB10 (io), 61 PTB11 (io), 62 PTB16 (io), 63 PTB17 (io), 64 PTB18 (io), 65 PTB19 (io), 66 PTB2 (io), 67 PTB21 (io), 68 PTB22 (io), 69 PTB23 (io), 70 PTC0 (io), 71 PTC1/LLWU_P6/RTC_CLKIN (io), 72 PTC2 (io), 73 PTC3/LLWU_P7 (io), 74 VSS hidden, 75 VLL3 (power), 76 VLL2/PTC20 (power), 77 VLL1/PTC21 (power), 78 VCAP2/PTC22, 79 VCAP1/PTC23, 80 PTC4/LLWU_P8 (io), 81 PTC5/LLWU_P9 (io), 82 PTC6/LLWU_P10 (io), 83 PTC7 (io), 84 PTC8 (io), 85 PTC9 (io), 86 PTC10 (io), 87 PTC11 (io), 88 PTC12 (io), 89 PTC13 (io), 90 PTC16 (io), 91 PTC17 (io), 92 PTC18 (io), 93 PTD0 (io), 94 PTD1 (io), 95 PTD2 (io), 96 PTD3 (io), 97 PTD4/LLWU_P14 (io), 98 PTD5 (io), 99 PTD6/LLWU_P15 (io), 100 PTD7 (io)

## MKL46Z128VMC4
designator *  value MKL46Z128VMC4
ki_keywords: Kinetis KL46 ARM Cortex M0+; ki_description: Kinetis KL46 series, 48-MHz/32-bit ARM Cortex-M0+, 128 kB flash, 16 kB SRAM, USB FS Device/OTG, Segment LCD, TSI, MAPBGA-121; ki_fp_filters: XFBGA*8x8mm*P0.65mm*; Footprint: Package_BGA:XFBGA-121_8x8mm_Layout11x11_P0.65mm; Supplier: http://www.nxp.com/docs/en/data-sheet/KL46P121M48SF4.pdf
footprint XFBGA-121_8x8mm_Layout11x11_P0.65mm
pins: A1 PTD7 (io), A2 PTD5 (io), A3 PTD4/LLWU_P14 (io), A4 NC (in) hidden, A5 NC (in) hidden, A6 PTC13 (io), A7 PTC8 (io), A8 PTC4/LLWU_P8 (io), A9 VLL1/PTC21 (power), A10 VLL2/PTC20 (power), A11 VLL3 (power), B1 NC (in) hidden, B2 PTD6/LLWU_P15 (io), B3 PTD3 (io), B4 PTC18 (io), B5 NC (in) hidden, B6 PTC12 (io), B7 PTC7 (io), B8 PTC3/LLWU_P7 (io), B9 PTC0 (io), B10 PTB16 (io), B11 VCAP2/PTC22, C1 NC (in) hidden, C2 NC (in) hidden, C3 PTD2 (io), C4 PTC17 (io), C5 PTC11 (io), C6 PTC10 (io), C7 PTC6/LLWU_P10 (io), C8 PTC2 (io), C9 PTB19 (io), C10 PTB11 (io), C11 VCAP1/PTC23, D1 NC (in) hidden, D2 NC (in) hidden, D3 PTD1 (io), D4 PTD0 (io), D5 PTC16 (io), D6 PTC9 (io), D7 PTC5/LLWU_P9 (io), D8 PTC1/LLWU_P6/RTC_CLKIN (io), D9 PTB18 (io), D10 PTB10 (io), D11 PTB8 (io), E1 NC (in) hidden, E2 PTE2 (io), E3 PTE1 (io), E4 PTE0 (io), E5 VDD (power), E6 VDD hidden, E7 VDD hidden, E8 PTB23 (io), E9 PTB17 (io), E10 PTB9 (io), E11 PTB7 (io), F1 USB0_DP (io), F2 USB0_DM (io), F3 PTE6 (io), F4 PTE3 (io), F5 VDDA (power), F6 VSSA (power), F7 VSS (power), F8 PTB22 (io), F9 PTB21 (io), F10 PTB2 (io), F11 NC (in) hidden, G1 VOUT33 (power), G2 VREGIN (power), G3 VSS hidden, G4 PTE5 (io), G5 VREFH (power), G6 VREFL (power), G7 VSS hidden, G8 PTB3 (io), G9 PTB2 (io), G10 PTB1 (io), G11 PTB0/LLWU_P5 (io), H1 PTE16 (io), H2 PTE17 (io), H3 NC (in) hidden, H4 PTA7 (io), H5 PTE24 (io), H6 PTE26 (io), H7 PTE4 (io), H8 PTA1 (io), H9 PTA3 (io), H10 PTA17 (io), H11 NC (in) hidden, J1 PTE18 (io), J2 PTE19 (io), J3 NC (in) hidden, J4 NC (in) hidden, J5 PTE25 (io), J6 PTA0 (io), J7 PTA2 (io), J8 PTA4 (io), J9 NC (in) hidden, J10 PTA16 (io), J11 PTA20 (io), K1 PTE20 (io), K2 PTE21 (io), K3 PTA6 (io), K4 NC (in) hidden, K5 PTE30 (io), K6 VDD hidden, K7 PTA5 (io), K8 PTA12 (io), K9 PTA14 (io), K10 VSS hidden, K11 PTA19 (io), L1 PTE22 (io), L2 PTE23 (io), L3 PTE29 (io), L4 PTE31 (io), L5 VSS hidden, L6 VSS hidden, L7 NC (in) hidden, L8 PTA13 (io), L9 PTA15 (io), L10 VDD hidden, L11 PTA18 (io)

## MKL46Z256VLH4
designator *  value MKL46Z256VLH4
ki_keywords: Kinetis KL46 ARM Cortex M0+; ki_description: Kinetis KL46 series, 48-MHz/32-bit ARM Cortex-M0+, 256 kB flash, 32 kB SRAM, USB FS Device/OTG, Segment LCD, TSI, LQFP-64; ki_fp_filters: LQFP*10x10mm*P0.5mm*; Footprint: Package_QFP:LQFP-64_10x10mm_P0.5mm; Supplier: http://www.nxp.com/docs/en/data-sheet/KL46P121M48SF4.pdf
footprint LQFP-64_10x10mm_P0.5mm
pins: 1 PTE0 (io), 2 PTE1 (io), 3 VDD (power), 4 VSS (power), 5 USB0_DP (io), 6 USB0_DM (io), 7 VOUT33 (power), 8 VREGIN (power), 9 PTE20 (io), 10 PTE21 (io), 11 PTE22 (io), 12 PTE23 (io), 13 VDDA (power), 14 VREFH (power), 15 VREFL (power), 16 VSSA (power), 17 PTE29 (io), 18 PTE30 (io), 19 PTE31 (io), 20 PTE24 (io), 21 PTE25 (io), 22 PTA0 (io), 23 PTA1 (io), 24 PTA2 (io), 25 PTA3 (io), 26 PTA4 (io), 27 PTA5 (io), 28 PTA12 (io), 29 PTA13 (io), 30 VDD hidden, 31 VSS hidden, 32 PTA18 (io), 33 PTA19 (io), 34 PTA20 (io), 35 PTB0/LLWU_P5 (io), 36 PTB1 (io), 37 PTB2 (io), 38 PTB3 (io), 39 PTB16 (io), 40 PTB17 (io), 41 PTB18 (io), 42 PTB19 (io), 43 PTC0 (io), 44 PTC1/LLWU_P6/RTC_CLKIN (io), 45 PTC2 (io), 46 PTC3/LLWU_P7 (io), 47 VSS hidden, 48 VLL3 (power), 49 VLL2/PTC20 (power), 50 VLL1/PTC21 (power), 51 VCAP2/PTC22, 52 VCAP1/PTC23, 53 PTC4/LLWU_P8 (io), 54 PTC5/LLWU_P9 (io), 55 PTC6/LLWU_P10 (io), 56 PTC7 (io), 57 PTD0 (io), 58 PTD1 (io), 59 PTD2 (io), 60 PTD3 (io), 61 PTD4/LLWU_P14 (io), 62 PTD5 (io), 63 PTD6/LLWU_P15 (io), 64 PTD7 (io)

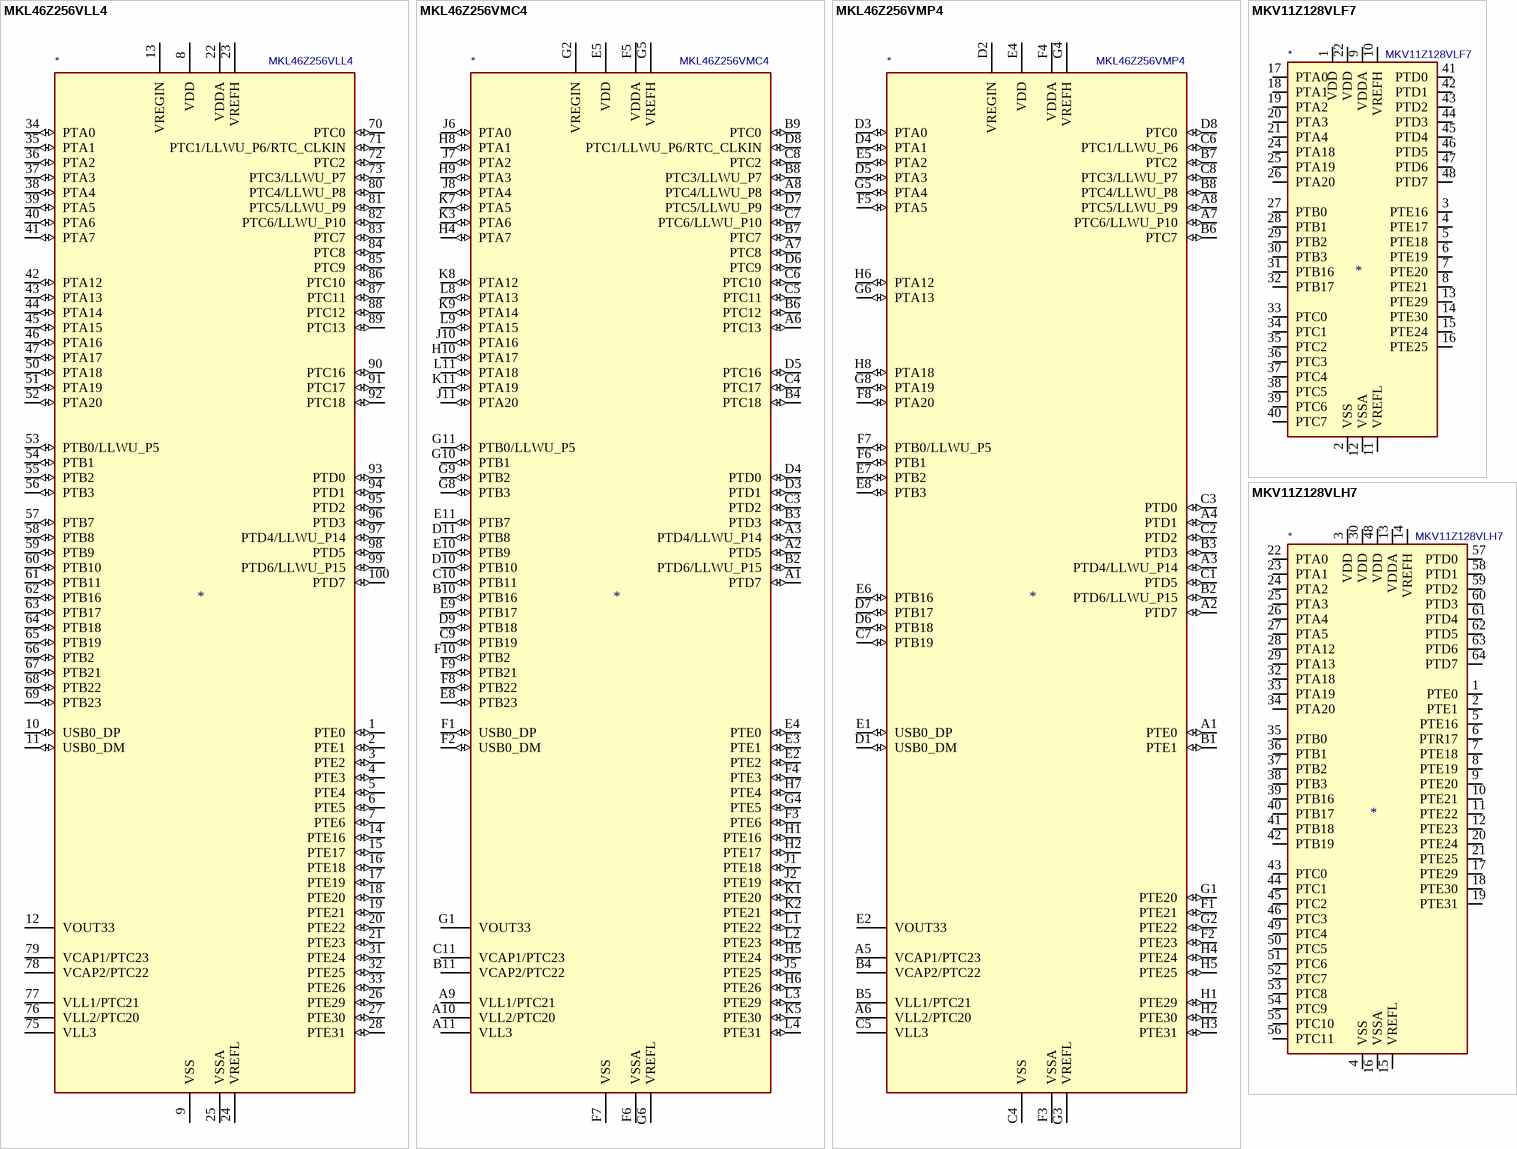
[diagram p29: symbols MKL46Z256VLL4 to MKV11Z128VLH7]

## MKL46Z256VLL4
designator *  value MKL46Z256VLL4
ki_keywords: Kinetis KL46 ARM Cortex M0+; ki_description: Kinetis KL46 series, 48-MHz/32-bit ARM Cortex-M0+, 256 kB flash, 32 kB SRAM, USB FS Device/OTG, Segment LCD, TSI, LQFP-100; ki_fp_filters: LQFP*14x14mm*P0.5mm*; Footprint: Package_QFP:LQFP-100_14x14mm_P0.5mm; Supplier: http://www.nxp.com/docs/en/data-sheet/KL46P121M48SF4.pdf
footprint LQFP-100_14x14mm_P0.5mm
pins: 1 PTE0 (io), 2 PTE1 (io), 3 PTE2 (io), 4 PTE3 (io), 5 PTE4 (io), 6 PTE5 (io), 7 PTE6 (io), 8 VDD (power), 9 VSS (power), 10 USB0_DP (io), 11 USB0_DM (io), 12 VOUT33 (power), 13 VREGIN (power), 14 PTE16 (io), 15 PTE17 (io), 16 PTE18 (io), 17 PTE19 (io), 18 PTE20 (io), 19 PTE21 (io), 20 PTE22 (io), 21 PTE23 (io), 22 VDDA (power), 23 VREFH (power), 24 VREFL (power), 25 VSSA (power), 26 PTE29 (io), 27 PTE30 (io), 28 PTE31 (io), 29 VSS hidden, 30 VDD hidden, 31 PTE24 (io), 32 PTE25 (io), 33 PTE26 (io), 34 PTA0 (io), 35 PTA1 (io), 36 PTA2 (io), 37 PTA3 (io), 38 PTA4 (io), 39 PTA5 (io), 40 PTA6 (io), 41 PTA7 (io), 42 PTA12 (io), 43 PTA13 (io), 44 PTA14 (io), 45 PTA15 (io), 46 PTA16 (io), 47 PTA17 (io), 48 VDD hidden, 49 VSS hidden, 50 PTA18 (io), 51 PTA19 (io), 52 PTA20 (io), 53 PTB0/LLWU_P5 (io), 54 PTB1 (io), 55 PTB2 (io), 56 PTB3 (io), 57 PTB7 (io), 58 PTB8 (io), 59 PTB9 (io), 60 PTB10 (io), 61 PTB11 (io), 62 PTB16 (io), 63 PTB17 (io), 64 PTB18 (io), 65 PTB19 (io), 66 PTB2 (io), 67 PTB21 (io), 68 PTB22 (io), 69 PTB23 (io), 70 PTC0 (io), 71 PTC1/LLWU_P6/RTC_CLKIN (io), 72 PTC2 (io), 73 PTC3/LLWU_P7 (io), 74 VSS hidden, 75 VLL3 (power), 76 VLL2/PTC20 (power), 77 VLL1/PTC21 (power), 78 VCAP2/PTC22, 79 VCAP1/PTC23, 80 PTC4/LLWU_P8 (io), 81 PTC5/LLWU_P9 (io), 82 PTC6/LLWU_P10 (io), 83 PTC7 (io), 84 PTC8 (io), 85 PTC9 (io), 86 PTC10 (io), 87 PTC11 (io), 88 PTC12 (io), 89 PTC13 (io), 90 PTC16 (io), 91 PTC17 (io), 92 PTC18 (io), 93 PTD0 (io), 94 PTD1 (io), 95 PTD2 (io), 96 PTD3 (io), 97 PTD4/LLWU_P14 (io), 98 PTD5 (io), 99 PTD6/LLWU_P15 (io), 100 PTD7 (io)

## MKL46Z256VMC4
designator *  value MKL46Z256VMC4
ki_keywords: Kinetis KL46 ARM Cortex M0+; ki_description: Kinetis KL46 series, 48-MHz/32-bit ARM Cortex-M0+, 256 kB flash, 32 kB SRAM, USB FS Device/OTG, Segment LCD, TSI, MAPBGA-121; ki_fp_filters: XFBGA*8x8mm*P0.65mm*; Footprint: Package_BGA:XFBGA-121_8x8mm_Layout11x11_P0.65mm; Supplier: http://www.nxp.com/docs/en/data-sheet/KL46P121M48SF4.pdf
footprint XFBGA-121_8x8mm_Layout11x11_P0.65mm
pins: A1 PTD7 (io), A2 PTD5 (io), A3 PTD4/LLWU_P14 (io), A4 NC (in) hidden, A5 NC (in) hidden, A6 PTC13 (io), A7 PTC8 (io), A8 PTC4/LLWU_P8 (io), A9 VLL1/PTC21 (power), A10 VLL2/PTC20 (power), A11 VLL3 (power), B1 NC (in) hidden, B2 PTD6/LLWU_P15 (io), B3 PTD3 (io), B4 PTC18 (io), B5 NC (in) hidden, B6 PTC12 (io), B7 PTC7 (io), B8 PTC3/LLWU_P7 (io), B9 PTC0 (io), B10 PTB16 (io), B11 VCAP2/PTC22, C1 NC (in) hidden, C2 NC (in) hidden, C3 PTD2 (io), C4 PTC17 (io), C5 PTC11 (io), C6 PTC10 (io), C7 PTC6/LLWU_P10 (io), C8 PTC2 (io), C9 PTB19 (io), C10 PTB11 (io), C11 VCAP1/PTC23, D1 NC (in) hidden, D2 NC (in) hidden, D3 PTD1 (io), D4 PTD0 (io), D5 PTC16 (io), D6 PTC9 (io), D7 PTC5/LLWU_P9 (io), D8 PTC1/LLWU_P6/RTC_CLKIN (io), D9 PTB18 (io), D10 PTB10 (io), D11 PTB8 (io), E1 NC (in) hidden, E2 PTE2 (io), E3 PTE1 (io), E4 PTE0 (io), E5 VDD (power), E6 VDD hidden, E7 VDD hidden, E8 PTB23 (io), E9 PTB17 (io), E10 PTB9 (io), E11 PTB7 (io), F1 USB0_DP (io), F2 USB0_DM (io), F3 PTE6 (io), F4 PTE3 (io), F5 VDDA (power), F6 VSSA (power), F7 VSS (power), F8 PTB22 (io), F9 PTB21 (io), F10 PTB2 (io), F11 NC (in) hidden, G1 VOUT33 (power), G2 VREGIN (power), G3 VSS hidden, G4 PTE5 (io), G5 VREFH (power), G6 VREFL (power), G7 VSS hidden, G8 PTB3 (io), G9 PTB2 (io), G10 PTB1 (io), G11 PTB0/LLWU_P5 (io), H1 PTE16 (io), H2 PTE17 (io), H3 NC (in) hidden, H4 PTA7 (io), H5 PTE24 (io), H6 PTE26 (io), H7 PTE4 (io), H8 PTA1 (io), H9 PTA3 (io), H10 PTA17 (io), H11 NC (in) hidden, J1 PTE18 (io), J2 PTE19 (io), J3 NC (in) hidden, J4 NC (in) hidden, J5 PTE25 (io), J6 PTA0 (io), J7 PTA2 (io), J8 PTA4 (io), J9 NC (in) hidden, J10 PTA16 (io), J11 PTA20 (io), K1 PTE20 (io), K2 PTE21 (io), K3 PTA6 (io), K4 NC (in) hidden, K5 PTE30 (io), K6 VDD hidden, K7 PTA5 (io), K8 PTA12 (io), K9 PTA14 (io), K10 VSS hidden, K11 PTA19 (io), L1 PTE22 (io), L2 PTE23 (io), L3 PTE29 (io), L4 PTE31 (io), L5 VSS hidden, L6 VSS hidden, L7 NC (in) hidden, L8 PTA13 (io), L9 PTA15 (io), L10 VDD hidden, L11 PTA18 (io)

## MKL46Z256VMP4
designator *  value MKL46Z256VMP4
ki_keywords: Kinetis KL46 ARM Cortex M0+; ki_description: Kinetis KL46 series, 48-MHz/32-bit ARM Cortex-M0+, 256 kB flash, 32 kB SRAM, USB FS Device/OTG, Segment LCD, TSI, MAPBGA-64; ki_fp_filters: XFBGA*5.0x5.0mm*P0.5mm*; Footprint: Package_BGA:XFBGA-64_5.0x5.0mm_Layout8x8_P0.5mm; Supplier: http://www.nxp.com/docs/en/data-sheet/KL46P121M48SF4.pdf
footprint XFBGA-64_5.0x5.0mm_Layout8x8_P0.5mm
pins: A1 PTE0 (io), A2 PTD7 (io), A3 PTD4/LLWU_P14 (io), A4 PTD1 (io), A5 VCAP1/PTC23, A6 VLL2/PTC20 (power), A7 PTC6/LLWU_P10 (io), A8 PTC5/LLWU_P9 (io), B1 PTE1 (io), B2 PTD6/LLWU_P15 (io), B3 PTD3 (io), B4 VCAP2/PTC22, B5 VLL1/PTC21 (power), B6 PTC7 (io), B7 PTC2 (io), B8 PTC4/LLWU_P8 (io), C1 PTD5 (io), C2 PTD2 (io), C3 PTD0 (io), C4 VSS (power), C5 VLL3 (power), C6 PTC1/LLWU_P6 (io), C7 PTB19 (io), C8 PTC3/LLWU_P7 (io), D1 USB0_DM (io), D2 VREGIN (power), D3 PTA0 (io), D4 PTA1 (io), D5 PTA3 (io), D6 PTB18 (io), D7 PTB17 (io), D8 PTC0 (io), E1 USB0_DP (io), E2 VOUT33 (power), E3 VSS hidden, E4 VDD (power), E5 PTA2 (io), E6 PTB16 (io), E7 PTB2 (io), E8 PTB3 (io), F1 PTE21 (io), F2 PTE23 (io), F3 VSSA (power), F4 VDDA (power), F5 PTA5 (io), F6 PTB1 (io), F7 PTB0/LLWU_P5 (io), F8 PTA20 (io), G1 PTE20 (io), G2 PTE22 (io), G3 VREFL (power), G4 VREFH (power), G5 PTA4 (io), G6 PTA13 (io), G7 VDD hidden, G8 PTA19 (io), H1 PTE29 (io), H2 PTE30 (io), H3 PTE31 (io), H4 PTE24 (io), H5 PTE25 (io), H6 PTA12 (io), H7 VSS hidden, H8 PTA18 (io)

## MKV11Z128VLF7
designator *  value MKV11Z128VLF7
ki_keywords: Kinetis KV11 ARM Cortex M0+; ki_description: Kinetis KV11 series, 75-MHz/32-bit ARM Cortex-M0+, 128 kB flash, 16 kB RAM, Entry-Level, Real-time Motor Control, LQFP-48; ki_fp_filters: LQFP*7x7mm*P0.5mm*; Footprint: Package_QFP:LQFP-48_7x7mm_P0.5mm; Supplier: https://www.nxp.com/docs/en/data-sheet/KV11P64M75.pdf
footprint LQFP-48_7x7mm_P0.5mm
pins: 1 VDD (power), 2 VSS (power), 3 PTE16 (io), 4 PTE17 (io), 5 PTE18 (io), 6 PTE19 (io), 7 PTE20 (io), 8 PTE21 (io), 9 VDDA (power), 10 VREFH (power), 11 VREFL (power), 12 VSSA (power), 13 PTE29 (io), 14 PTE30 (io), 15 PTE24 (io), 16 PTE25 (io), 17 PTA0 (io), 18 PTA1 (io), 19 PTA2 (io), 20 PTA3 (io), 21 PTA4 (io), 22 VDD (power), 23 VSS hidden, 24 PTA18 (io), 25 PTA19 (io), 26 PTA20 (io), 27 PTB0 (io), 28 PTB1 (io), 29 PTB2 (io), 30 PTB3 (io), 31 PTB16 (io), 32 PTB17 (io), 33 PTC0 (io), 34 PTC1 (io), 35 PTC2 (io), 36 PTC3 (io), 37 PTC4 (io), 38 PTC5 (io), 39 PTC6 (io), 40 PTC7 (io), 41 PTD0 (io), 42 PTD1 (io), 43 PTD2 (io), 44 PTD3 (io), 45 PTD4 (io), 46 PTD5 (io), 47 PTD6 (io), 48 PTD7 (io)

## MKV11Z128VLH7
designator *  value MKV11Z128VLH7
ki_keywords: Kinetis KV11 ARM Cortex M0+; ki_description: Kinetis KV11 series, 75-MHz/32-bit ARM Cortex-M0+, 128 kB flash, 16 kB RAM, Entry-Level, Real-time Motor Control, LQFP-64; ki_fp_filters: LQFP*10x10mm*P0.5mm*; Footprint: Package_QFP:LQFP-64_10x10mm_P0.5mm; Supplier: https://www.nxp.com/docs/en/data-sheet/KV11P64M75.pdf
footprint LQFP-64_10x10mm_P0.5mm
pins: 1 PTE0 (io), 2 PTE1 (io), 3 VDD (power), 4 VSS (power), 5 PTE16 (io), 6 PTR17 (io), 7 PTE18 (io), 8 PTE19 (io), 9 PTE20 (io), 10 PTE21 (io), 11 PTE22 (io), 12 PTE23 (io), 13 VDDA (power), 14 VREFH (power), 15 VREFL (power), 16 VSSA (power), 17 PTE29 (io), 18 PTE30 (io), 19 PTE31 (io), 20 PTE24 (io), 21 PTE25 (io), 22 PTA0 (io), 23 PTA1 (io), 24 PTA2 (io), 25 PTA3 (io), 26 PTA4 (io), 27 PTA5 (io), 28 PTA12 (io), 29 PTA13 (io), 30 VDD (power), 31 VSS hidden, 32 PTA18 (io), 33 PTA19 (io), 34 PTA20 (io), 35 PTB0 (io), 36 PTB1 (io), 37 PTB2 (io), 38 PTB3 (io), 39 PTB16 (io), 40 PTB17 (io), 41 PTB18 (io), 42 PTB19 (io), 43 PTC0 (io), 44 PTC1 (io), 45 PTC2 (io), 46 PTC3 (io), 47 VSS hidden, 48 VDD (power), 49 PTC4 (io), 50 PTC5 (io), 51 PTC6 (io), 52 PTC7 (io), 53 PTC8 (io), 54 PTC9 (io), 55 PTC10 (io), 56 PTC11 (io), 57 PTD0 (io), 58 PTD1 (io), 59 PTD2 (io), 60 PTD3 (io), 61 PTD4 (io), 62 PTD5 (io), 63 PTD6 (io), 64 PTD7 (io)

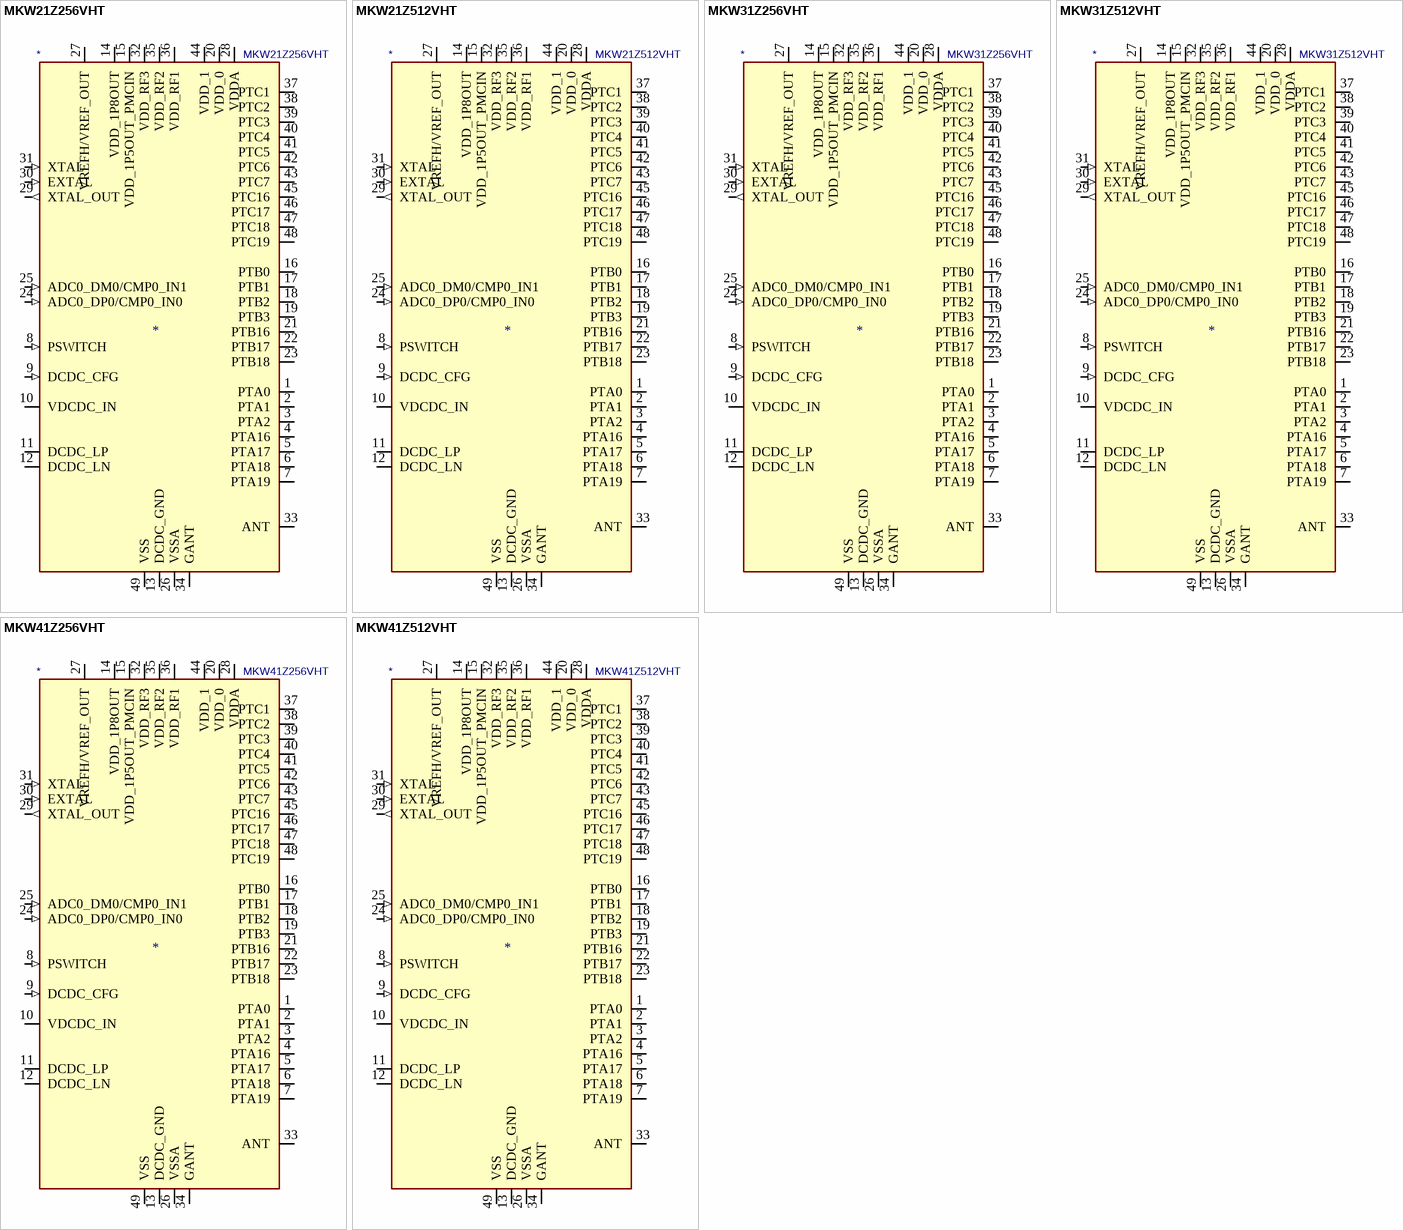
[diagram p30: symbols MKW21Z256VHT to MKW41Z512VHT]

## MKW21Z256VHT
designator *  value MKW21Z256VHT
ki_keywords: Kinetis KW21Z ARM Cortex M0+; ki_description: Kinetis KW41Z-2.4 GHz, Arm Cortex-M0+, 256kB Flash, 64kB SRAM, generic FSK, LQFN-48; ki_fp_filters: NXP*LQFN*1EP*7x7mm*P0.5mm*; Footprint: Package_DFN_QFN:NXP_LQFN-48-1EP_7x7mm_P0.5mm_EP3.5x3.5mm_16xMask0.45x0.45_ThermalVias; Supplier: https://www.nxp.com/docs/en/data-sheet/MKW41Z512.pdf
footprint NXP_LQFN-48-1EP_7x7mm_P0.5mm_EP3.5x3.5mm_16xMask0.45x0.45_ThermalVias
pins: 1 PTA0 (io), 2 PTA1 (io), 3 PTA2 (io), 4 PTA16 (io), 5 PTA17 (io), 6 PTA18 (io), 7 PTA19 (io), 8 PSWITCH (in), 9 DCDC_CFG (in), 10 VDCDC_IN (power), 11 DCDC_LP, 12 DCDC_LN, 13 DCDC_GND (power), 14 VDD_1P8OUT (power), 15 VDD_1P5OUT_PMCIN (power), 16 PTB0 (io), 17 PTB1 (io), 18 PTB2 (io), 19 PTB3 (io), 20 VDD_0 (power), 21 PTB16 (io), 22 PTB17 (io), 23 PTB18 (io), 24 ADC0_DP0/CMP0_IN0 (in), 25 ADC0_DM0/CMP0_IN1 (in), 26 VSSA (power), 27 VREFH/VREF_OUT (io), 28 VDDA (power), 29 XTAL_OUT (out), 30 EXTAL (in), 31 XTAL (in), 32 VDD_RF3 (power), 33 ANT, 34 GANT (power), 35 VDD_RF2 (power), 36 VDD_RF1 (power), 37 PTC1 (io), 38 PTC2 (io), 39 PTC3 (io), 40 PTC4 (io), 41 PTC5 (io), 42 PTC6 (io), 43 PTC7 (io), 44 VDD_1 (power), 45 PTC16 (io), 46 PTC17 (io), 47 PTC18 (io), 48 PTC19 (io), 49 VSS (power)

## MKW21Z512VHT
designator *  value MKW21Z512VHT
ki_keywords: Kinetis KW21Z ARM Cortex M0+; ki_description: Kinetis KW41Z-2.4 GHz, Arm Cortex-M0+, 512kB Flash, 128kB SRAM, generic FSK, LQFN-48; ki_fp_filters: NXP*LQFN*1EP*7x7mm*P0.5mm*; Footprint: Package_DFN_QFN:NXP_LQFN-48-1EP_7x7mm_P0.5mm_EP3.5x3.5mm_16xMask0.45x0.45_ThermalVias; Supplier: https://www.nxp.com/docs/en/data-sheet/MKW41Z512.pdf
footprint NXP_LQFN-48-1EP_7x7mm_P0.5mm_EP3.5x3.5mm_16xMask0.45x0.45_ThermalVias
pins: 1 PTA0 (io), 2 PTA1 (io), 3 PTA2 (io), 4 PTA16 (io), 5 PTA17 (io), 6 PTA18 (io), 7 PTA19 (io), 8 PSWITCH (in), 9 DCDC_CFG (in), 10 VDCDC_IN (power), 11 DCDC_LP, 12 DCDC_LN, 13 DCDC_GND (power), 14 VDD_1P8OUT (power), 15 VDD_1P5OUT_PMCIN (power), 16 PTB0 (io), 17 PTB1 (io), 18 PTB2 (io), 19 PTB3 (io), 20 VDD_0 (power), 21 PTB16 (io), 22 PTB17 (io), 23 PTB18 (io), 24 ADC0_DP0/CMP0_IN0 (in), 25 ADC0_DM0/CMP0_IN1 (in), 26 VSSA (power), 27 VREFH/VREF_OUT (io), 28 VDDA (power), 29 XTAL_OUT (out), 30 EXTAL (in), 31 XTAL (in), 32 VDD_RF3 (power), 33 ANT, 34 GANT (power), 35 VDD_RF2 (power), 36 VDD_RF1 (power), 37 PTC1 (io), 38 PTC2 (io), 39 PTC3 (io), 40 PTC4 (io), 41 PTC5 (io), 42 PTC6 (io), 43 PTC7 (io), 44 VDD_1 (power), 45 PTC16 (io), 46 PTC17 (io), 47 PTC18 (io), 48 PTC19 (io), 49 VSS (power)

## MKW31Z256VHT
designator *  value MKW31Z256VHT
ki_keywords: Kinetis KW31Z ARM Cortex M0+; ki_description: Kinetis KW31Z-2.4 GHz, Arm Cortex-M0+, 256kB Flash, 64kB SRAM, Dual Mode: Bluetooth LE and generic FSK, LQFN-48; ki_fp_filters: NXP*LQFN*1EP*7x7mm*P0.5mm*; Footprint: Package_DFN_QFN:NXP_LQFN-48-1EP_7x7mm_P0.5mm_EP3.5x3.5mm_16xMask0.45x0.45_ThermalVias; Supplier: https://www.nxp.com/docs/en/data-sheet/MKW41Z512.pdf
footprint NXP_LQFN-48-1EP_7x7mm_P0.5mm_EP3.5x3.5mm_16xMask0.45x0.45_ThermalVias
pins: 1 PTA0 (io), 2 PTA1 (io), 3 PTA2 (io), 4 PTA16 (io), 5 PTA17 (io), 6 PTA18 (io), 7 PTA19 (io), 8 PSWITCH (in), 9 DCDC_CFG (in), 10 VDCDC_IN (power), 11 DCDC_LP, 12 DCDC_LN, 13 DCDC_GND (power), 14 VDD_1P8OUT (power), 15 VDD_1P5OUT_PMCIN (power), 16 PTB0 (io), 17 PTB1 (io), 18 PTB2 (io), 19 PTB3 (io), 20 VDD_0 (power), 21 PTB16 (io), 22 PTB17 (io), 23 PTB18 (io), 24 ADC0_DP0/CMP0_IN0 (in), 25 ADC0_DM0/CMP0_IN1 (in), 26 VSSA (power), 27 VREFH/VREF_OUT (io), 28 VDDA (power), 29 XTAL_OUT (out), 30 EXTAL (in), 31 XTAL (in), 32 VDD_RF3 (power), 33 ANT, 34 GANT (power), 35 VDD_RF2 (power), 36 VDD_RF1 (power), 37 PTC1 (io), 38 PTC2 (io), 39 PTC3 (io), 40 PTC4 (io), 41 PTC5 (io), 42 PTC6 (io), 43 PTC7 (io), 44 VDD_1 (power), 45 PTC16 (io), 46 PTC17 (io), 47 PTC18 (io), 48 PTC19 (io), 49 VSS (power)